# Altium schematic symbol library SCH-51943_B_Library.SchLib: 230 symbols (part 2 of 2)
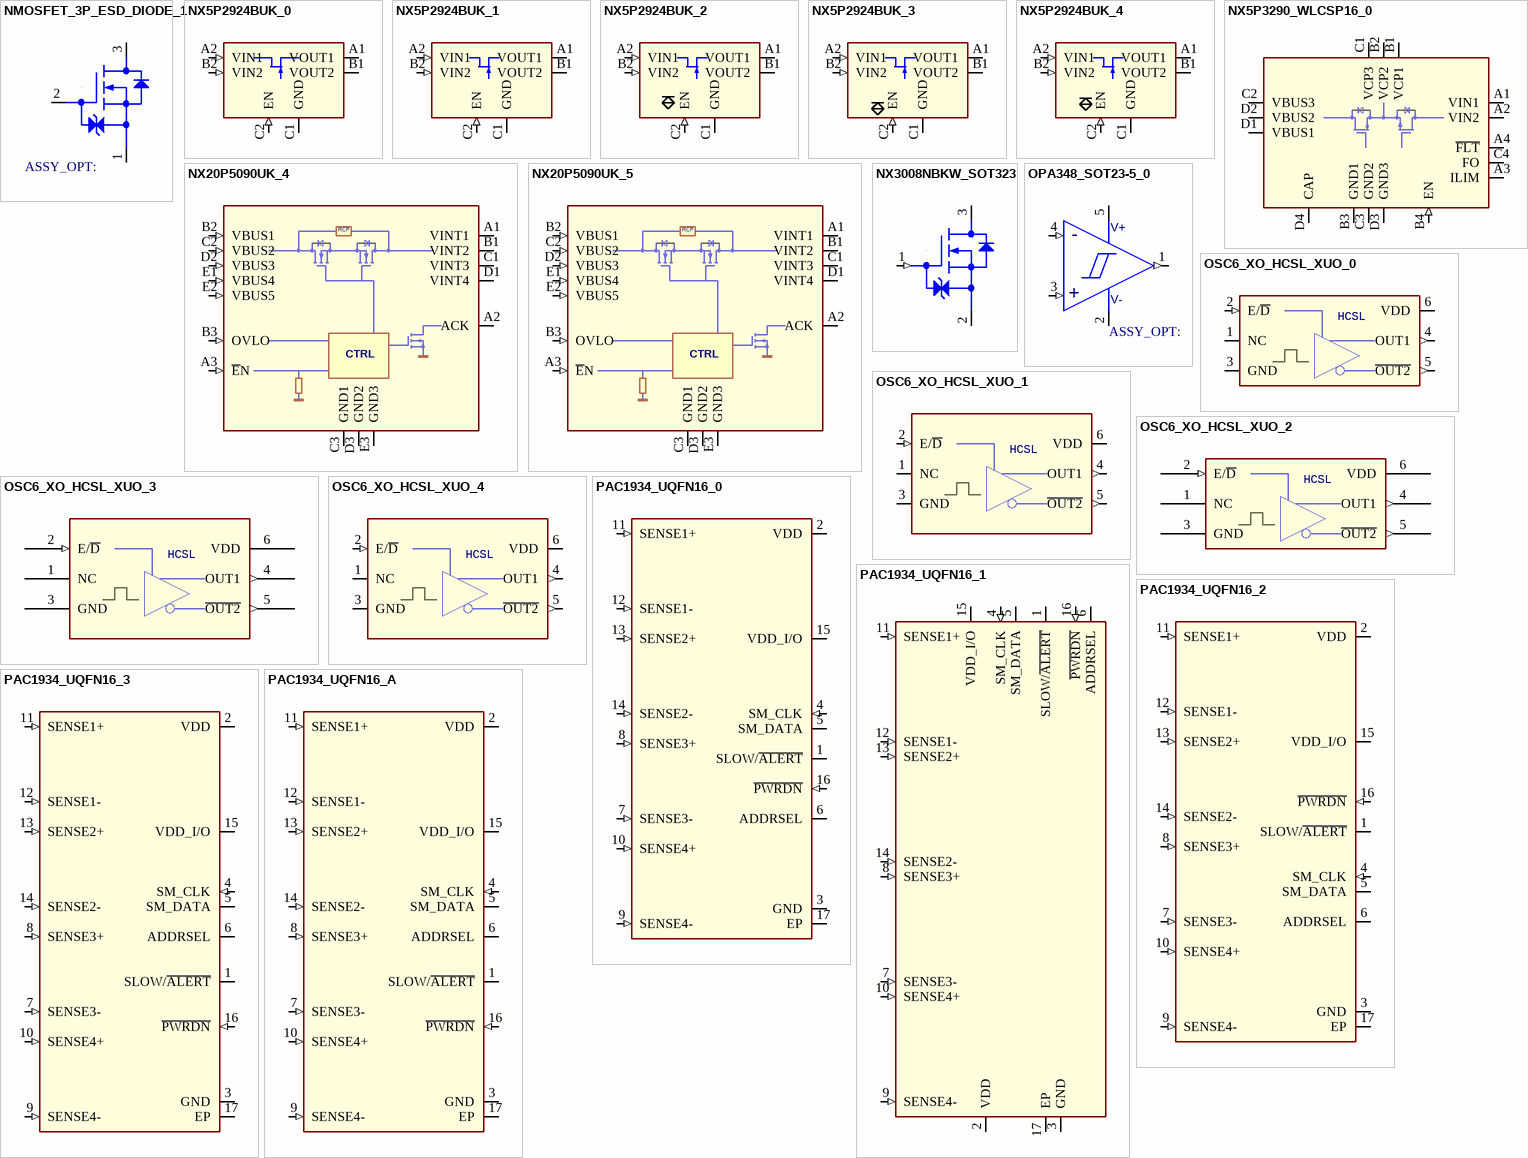
[diagram p28: symbols NMOSFET_3P_ESD_DIODE_1 to PAC1934_UQFN16_A]

## NX5P2924BUK_3
designator U?
CLASS: IC
footprint WLCSP6
pins: A1 VOUT1 (power), A2 VIN1 (in), B1 VOUT2 (power), B2 VIN2 (in), C1 GND (power), C2 EN (in)

## NX5P2924BUK_4
designator U?
CLASS: IC
footprint WLCSP6
pins: A1 VOUT1 (power), A2 VIN1 (in), B1 VOUT2 (power), B2 VIN2 (in), C1 GND (power), C2 EN (in)

## NX5P3290_WLCSP16_0
designator U?
CLASS: IC
pins: A1 VIN1 (power), A2 VIN2 (power), A3 ILIM, A4 ~{FLT} (oc), B1 VCP1, B2 VCP2, B3 GND1 (power), B4 EN (in), C1 VCP3, C2 VBUS3 (power), C3 GND2 (power), C4 FO, D1 VBUS1 (power), D2 VBUS2 (power), D3 GND3 (power), D4 CAP

## NX20P5090UK_4
designator U?
Manufacturer Part Number: NX20P5090UK; Manufacturer: NXP Semiconductors; CLASS: IC
footprint WLCSP15
pins: A1 VINT1 (power), A2 ACK (oc), A3 ~{E}N (in), B1 VINT2 (power), B2 VBUS1 (in), B3 OVLO (in), C1 VINT3 (power), C2 VBUS2 (in), C3 GND1 (power), D1 VINT4 (power), D2 VBUS3 (in), D3 GND2 (power), E1 VBUS4 (in), E2 VBUS5 (in), E3 GND3 (power)
text: RCP; CTRL

## NX20P5090UK_5
designator U?
Manufacturer: NXP Semiconductors; Manufacturer Part Number: NX20P5090UK; CLASS: IC
footprint WLCSP15
pins: A1 VINT1 (power), A2 ACK (oc), A3 ~{E}N (in), B1 VINT2 (power), B2 VBUS1 (in), B3 OVLO (in), C1 VINT3 (power), C2 VBUS2 (in), C3 GND1 (power), D1 VINT4 (power), D2 VBUS3 (in), D3 GND2 (power), E1 VBUS4 (in), E2 VBUS5 (in), E3 GND3 (power)
text: RCP; CTRL

## NX3008NBKW_SOT323
designator Q?
CLASS: IC
pins: 1 GATE (in), 2 SOURCE, 3 DRAIN

## OPA348_SOT23-5_0
designator U?
CLASS: IC
pins: 1 OUT (out), 2 V- (power), 3 +IN (in), 4 -IN (in), 5 V+ (power)
text: -; +

## OSC6_XO_HCSL_XUO_0
designator Y?
CLASS: IC
footprint JS6
pins: 1 NC, 2 E/~{D} (in), 3 GND (power), 4 OUT1 (out), 5 ~{OUT2} (out), 6 VDD (power)
text: HCSL

## OSC6_XO_HCSL_XUO_1
designator Y?
CLASS: IC
footprint JS6
pins: 1 NC, 2 E/~{D} (in), 3 GND (power), 4 OUT1 (out), 5 ~{OUT2} (out), 6 VDD (power)
text: HCSL

## OSC6_XO_HCSL_XUO_2
designator Y?
CLASS: IC
footprint JS6
pins: 1 NC, 2 E/~{D} (in), 3 GND (power), 4 OUT1 (out), 5 ~{OUT2} (out), 6 VDD (power)
text: HCSL

## OSC6_XO_HCSL_XUO_3
designator Y?
CLASS: IC
footprint JS6
pins: 1 NC, 2 E/~{D} (in), 3 GND (power), 4 OUT1 (out), 5 ~{OUT2} (out), 6 VDD (power)
text: HCSL

## OSC6_XO_HCSL_XUO_4
designator Y?
CLASS: IC
footprint JS6
pins: 1 NC, 2 E/~{D} (in), 3 GND (power), 4 OUT1 (out), 5 ~{OUT2} (out), 6 VDD (power)
text: HCSL

## PAC1934_UQFN16_0
designator U?
CLASS: IC
pins: 1 SLOW/~{ALERT} (io), 2 VDD (power), 3 GND (power), 4 SM_CLK (in), 5 SM_DATA (io), 6 ADDRSEL (io), 7 SENSE3- (in), 8 SENSE3+ (in), 9 SENSE4- (in), 10 SENSE4+ (in), 11 SENSE1+ (in), 12 SENSE1- (in), 13 SENSE2+ (in), 14 SENSE2- (in), 15 VDD_I/O (power), 16 ~{PWRDN} (in), 17 EP (power)

## PAC1934_UQFN16_1
designator U?
CLASS: IC
pins: 1 SLOW/~{ALERT} (io), 2 VDD (power), 3 GND (power), 4 SM_CLK (in), 5 SM_DATA (io), 6 ADDRSEL (io), 7 SENSE3- (in), 8 SENSE3+ (in), 9 SENSE4- (in), 10 SENSE4+ (in), 11 SENSE1+ (in), 12 SENSE1- (in), 13 SENSE2+ (in), 14 SENSE2- (in), 15 VDD_I/O (power), 16 ~{PWRDN} (in), 17 EP (power)

## PAC1934_UQFN16_2
designator U?
CLASS: IC
pins: 1 SLOW/~{ALERT} (io), 2 VDD (power), 3 GND (power), 4 SM_CLK (in), 5 SM_DATA (io), 6 ADDRSEL (io), 7 SENSE3- (in), 8 SENSE3+ (in), 9 SENSE4- (in), 10 SENSE4+ (in), 11 SENSE1+ (in), 12 SENSE1- (in), 13 SENSE2+ (in), 14 SENSE2- (in), 15 VDD_I/O (power), 16 ~{PWRDN} (in), 17 EP (power)

## PAC1934_UQFN16_3
designator U?
CLASS: IC
pins: 1 SLOW/~{ALERT} (io), 2 VDD (power), 3 GND (power), 4 SM_CLK (in), 5 SM_DATA (io), 6 ADDRSEL (io), 7 SENSE3- (in), 8 SENSE3+ (in), 9 SENSE4- (in), 10 SENSE4+ (in), 11 SENSE1+ (in), 12 SENSE1- (in), 13 SENSE2+ (in), 14 SENSE2- (in), 15 VDD_I/O (power), 16 ~{PWRDN} (in), 17 EP (power)

## PAC1934_UQFN16_A
designator U?
CLASS: IC
pins: 1 SLOW/~{ALERT} (io), 2 VDD (power), 3 GND (power), 4 SM_CLK (in), 5 SM_DATA (io), 6 ADDRSEL (io), 7 SENSE3- (in), 8 SENSE3+ (in), 9 SENSE4- (in), 10 SENSE4+ (in), 11 SENSE1+ (in), 12 SENSE1- (in), 13 SENSE2+ (in), 14 SENSE2- (in), 15 VDD_I/O (power), 16 ~{PWRDN} (in), 17 EP (power)

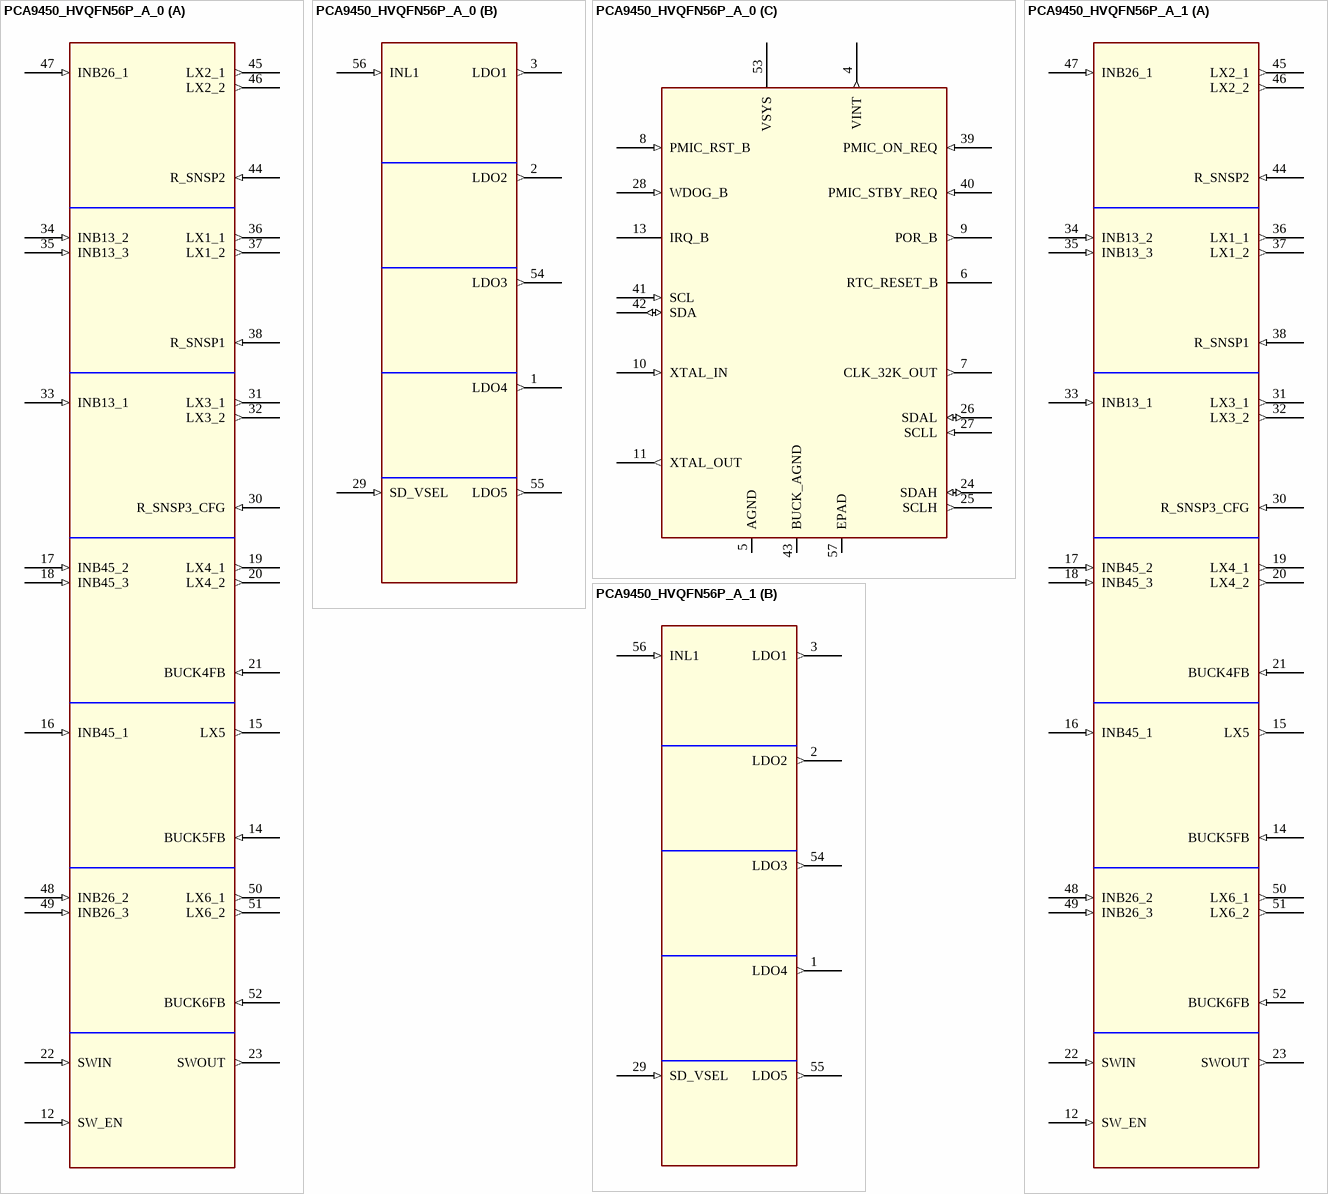
[diagram p12: symbols PCA9450_HVQFN56P_A_0 to PCA9450_HVQFN56P_A_1]

## PCA9450_HVQFN56P_A_0
designator U?
SWAP_INFO: (S1+S2+S3); SPLIT_INST: TRUE; CLASS: IC
part A pins: 12 SW_EN (in), 14 BUCK5FB (in), 15 LX5 (out), 16 INB45_1 (in), 17 INB45_2 (in), 18 INB45_3 (in), 19 LX4_1 (out), 20 LX4_2 (out), 21 BUCK4FB (in), 22 SWIN (in), 23 SWOUT (out), 30 R_SNSP3_CFG (in), 31 LX3_1 (out), 32 LX3_2 (out), 33 INB13_1 (in), 34 INB13_2 (in), 35 INB13_3 (in), 36 LX1_1 (out), 37 LX1_2 (out), 38 R_SNSP1 (in), 44 R_SNSP2 (in), 45 LX2_1 (out), 46 LX2_2 (out), 47 INB26_1 (in), 48 INB26_2 (in), 49 INB26_3 (in), 50 LX6_1 (out), 51 LX6_2 (out), 52 BUCK6FB (in)
part B pins: 1 LDO4 (out), 2 LDO2 (out), 3 LDO1 (out), 29 SD_VSEL (in), 54 LDO3 (out), 55 LDO5 (out), 56 INL1 (in)
part C pins: 4 VINT (out), 5 AGND (power), 6 RTC_RESET_B (oc), 7 CLK_32K_OUT (out), 8 PMIC_RST_B (in), 9 POR_B (out), 10 XTAL_IN (in), 11 XTAL_OUT (out), 13 IRQ_B (oc), 24 SDAH (io), 25 SCLH (out), 26 SDAL (io), 27 SCLL (in), 28 WDOG_B (in), 39 PMIC_ON_REQ (in), 40 PMIC_STBY_REQ (in), 41 SCL (in), 42 SDA (io), 43 BUCK_AGND (power), 53 VSYS (power), 57 EPAD (power)

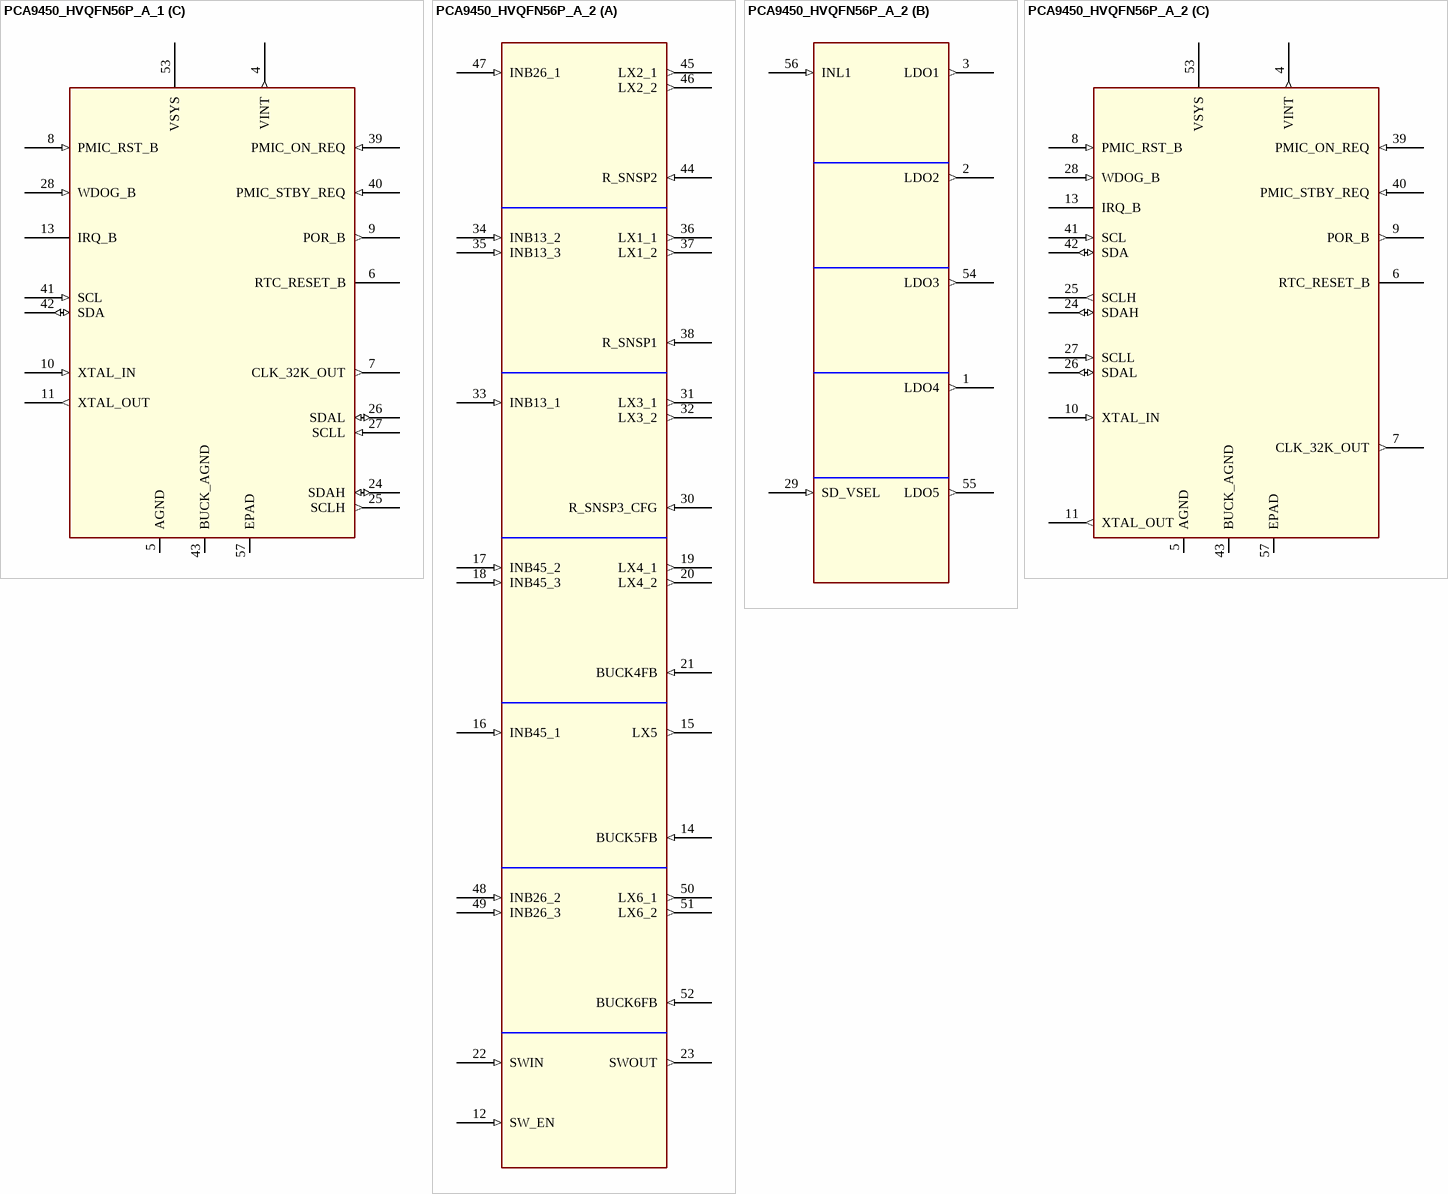
[diagram p13: symbols PCA9450_HVQFN56P_A_1 to PCA9450_HVQFN56P_A_2]

## PCA9450_HVQFN56P_A_1
designator U?
SWAP_INFO: (S1+S2+S3); SPLIT_INST: TRUE; CLASS: IC
part A pins: 12 SW_EN (in), 14 BUCK5FB (in), 15 LX5 (out), 16 INB45_1 (in), 17 INB45_2 (in), 18 INB45_3 (in), 19 LX4_1 (out), 20 LX4_2 (out), 21 BUCK4FB (in), 22 SWIN (in), 23 SWOUT (out), 30 R_SNSP3_CFG (in), 31 LX3_1 (out), 32 LX3_2 (out), 33 INB13_1 (in), 34 INB13_2 (in), 35 INB13_3 (in), 36 LX1_1 (out), 37 LX1_2 (out), 38 R_SNSP1 (in), 44 R_SNSP2 (in), 45 LX2_1 (out), 46 LX2_2 (out), 47 INB26_1 (in), 48 INB26_2 (in), 49 INB26_3 (in), 50 LX6_1 (out), 51 LX6_2 (out), 52 BUCK6FB (in)
part B pins: 1 LDO4 (out), 2 LDO2 (out), 3 LDO1 (out), 29 SD_VSEL (in), 54 LDO3 (out), 55 LDO5 (out), 56 INL1 (in)
part C pins: 4 VINT (out), 5 AGND (power), 6 RTC_RESET_B (oc), 7 CLK_32K_OUT (out), 8 PMIC_RST_B (in), 9 POR_B (out), 10 XTAL_IN (in), 11 XTAL_OUT (out), 13 IRQ_B (oc), 24 SDAH (io), 25 SCLH (out), 26 SDAL (io), 27 SCLL (in), 28 WDOG_B (in), 39 PMIC_ON_REQ (in), 40 PMIC_STBY_REQ (in), 41 SCL (in), 42 SDA (io), 43 BUCK_AGND (power), 53 VSYS (power), 57 EPAD (power)

## PCA9450_HVQFN56P_A_2
designator U?
SWAP_INFO: (S1+S2+S3); SPLIT_INST: TRUE; CLASS: IC
part A pins: 12 SW_EN (in), 14 BUCK5FB (in), 15 LX5 (out), 16 INB45_1 (in), 17 INB45_2 (in), 18 INB45_3 (in), 19 LX4_1 (out), 20 LX4_2 (out), 21 BUCK4FB (in), 22 SWIN (in), 23 SWOUT (out), 30 R_SNSP3_CFG (in), 31 LX3_1 (out), 32 LX3_2 (out), 33 INB13_1 (in), 34 INB13_2 (in), 35 INB13_3 (in), 36 LX1_1 (out), 37 LX1_2 (out), 38 R_SNSP1 (in), 44 R_SNSP2 (in), 45 LX2_1 (out), 46 LX2_2 (out), 47 INB26_1 (in), 48 INB26_2 (in), 49 INB26_3 (in), 50 LX6_1 (out), 51 LX6_2 (out), 52 BUCK6FB (in)
part B pins: 1 LDO4 (out), 2 LDO2 (out), 3 LDO1 (out), 29 SD_VSEL (in), 54 LDO3 (out), 55 LDO5 (out), 56 INL1 (in)
part C pins: 4 VINT (out), 5 AGND (power), 6 RTC_RESET_B (oc), 7 CLK_32K_OUT (out), 8 PMIC_RST_B (in), 9 POR_B (out), 10 XTAL_IN (in), 11 XTAL_OUT (out), 13 IRQ_B (oc), 24 SDAH (io), 25 SCLH (out), 26 SDAL (io), 27 SCLL (in), 28 WDOG_B (in), 39 PMIC_ON_REQ (in), 40 PMIC_STBY_REQ (in), 41 SCL (in), 42 SDA (io), 43 BUCK_AGND (power), 53 VSYS (power), 57 EPAD (power)

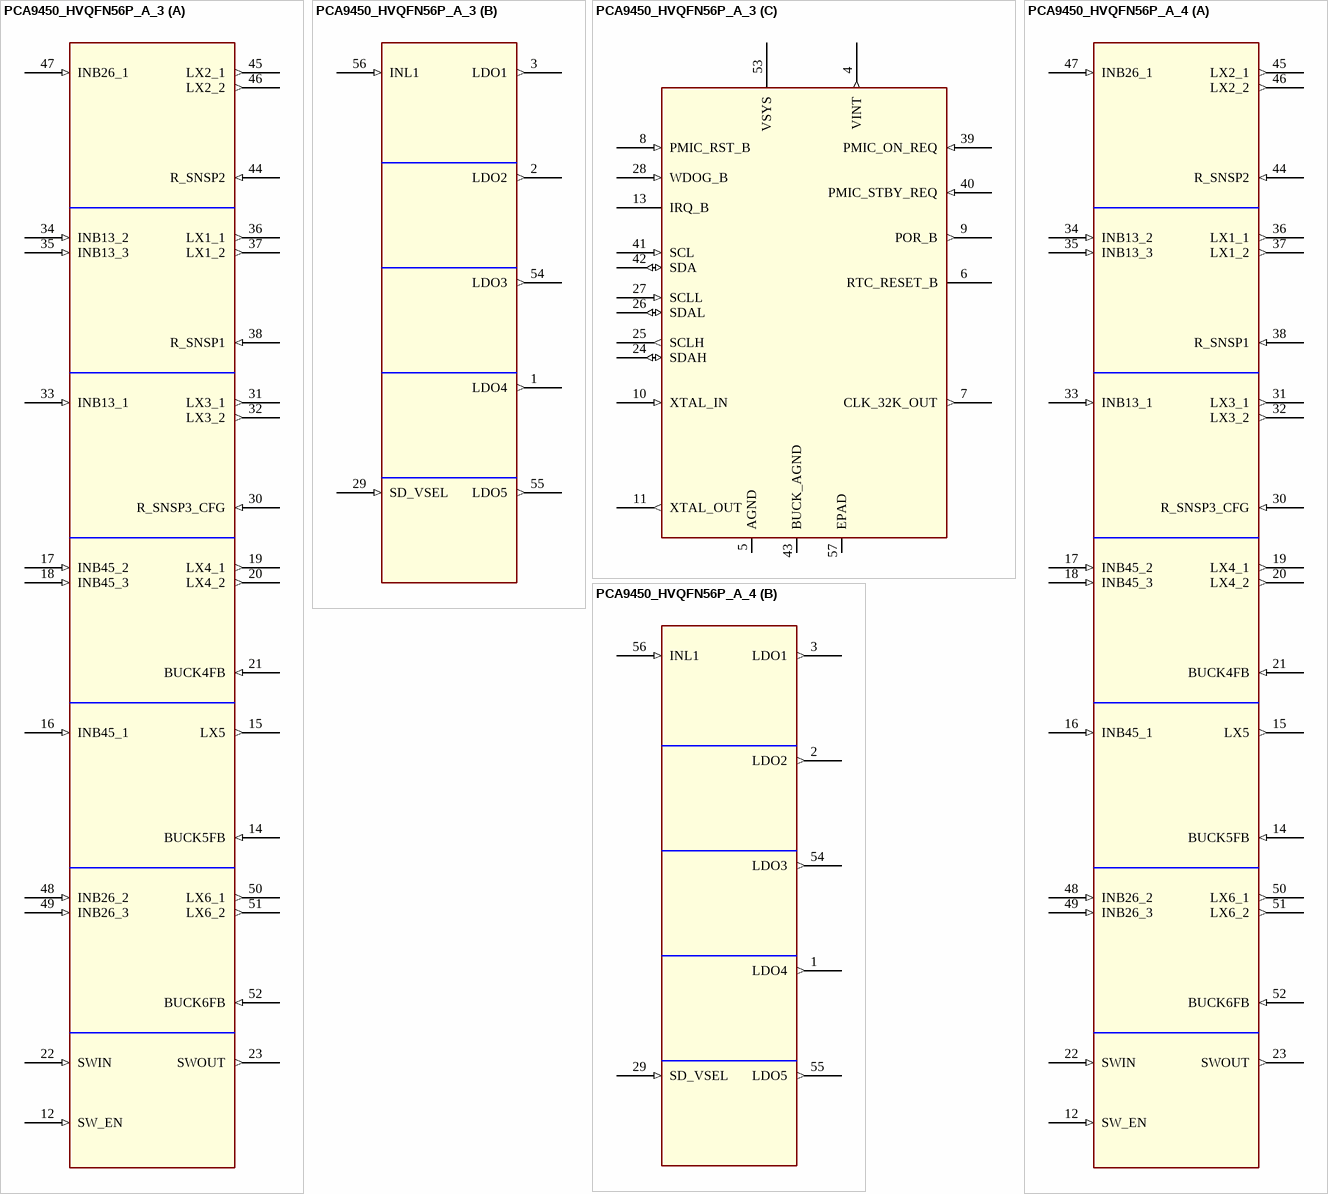
[diagram p14: symbols PCA9450_HVQFN56P_A_3 to PCA9450_HVQFN56P_A_4]

## PCA9450_HVQFN56P_A_3
designator U?
SWAP_INFO: (S1+S2+S3); SPLIT_INST: TRUE; CLASS: IC
part A pins: 12 SW_EN (in), 14 BUCK5FB (in), 15 LX5 (out), 16 INB45_1 (in), 17 INB45_2 (in), 18 INB45_3 (in), 19 LX4_1 (out), 20 LX4_2 (out), 21 BUCK4FB (in), 22 SWIN (in), 23 SWOUT (out), 30 R_SNSP3_CFG (in), 31 LX3_1 (out), 32 LX3_2 (out), 33 INB13_1 (in), 34 INB13_2 (in), 35 INB13_3 (in), 36 LX1_1 (out), 37 LX1_2 (out), 38 R_SNSP1 (in), 44 R_SNSP2 (in), 45 LX2_1 (out), 46 LX2_2 (out), 47 INB26_1 (in), 48 INB26_2 (in), 49 INB26_3 (in), 50 LX6_1 (out), 51 LX6_2 (out), 52 BUCK6FB (in)
part B pins: 1 LDO4 (out), 2 LDO2 (out), 3 LDO1 (out), 29 SD_VSEL (in), 54 LDO3 (out), 55 LDO5 (out), 56 INL1 (in)
part C pins: 4 VINT (out), 5 AGND (power), 6 RTC_RESET_B (oc), 7 CLK_32K_OUT (out), 8 PMIC_RST_B (in), 9 POR_B (out), 10 XTAL_IN (in), 11 XTAL_OUT (out), 13 IRQ_B (oc), 24 SDAH (io), 25 SCLH (out), 26 SDAL (io), 27 SCLL (in), 28 WDOG_B (in), 39 PMIC_ON_REQ (in), 40 PMIC_STBY_REQ (in), 41 SCL (in), 42 SDA (io), 43 BUCK_AGND (power), 53 VSYS (power), 57 EPAD (power)

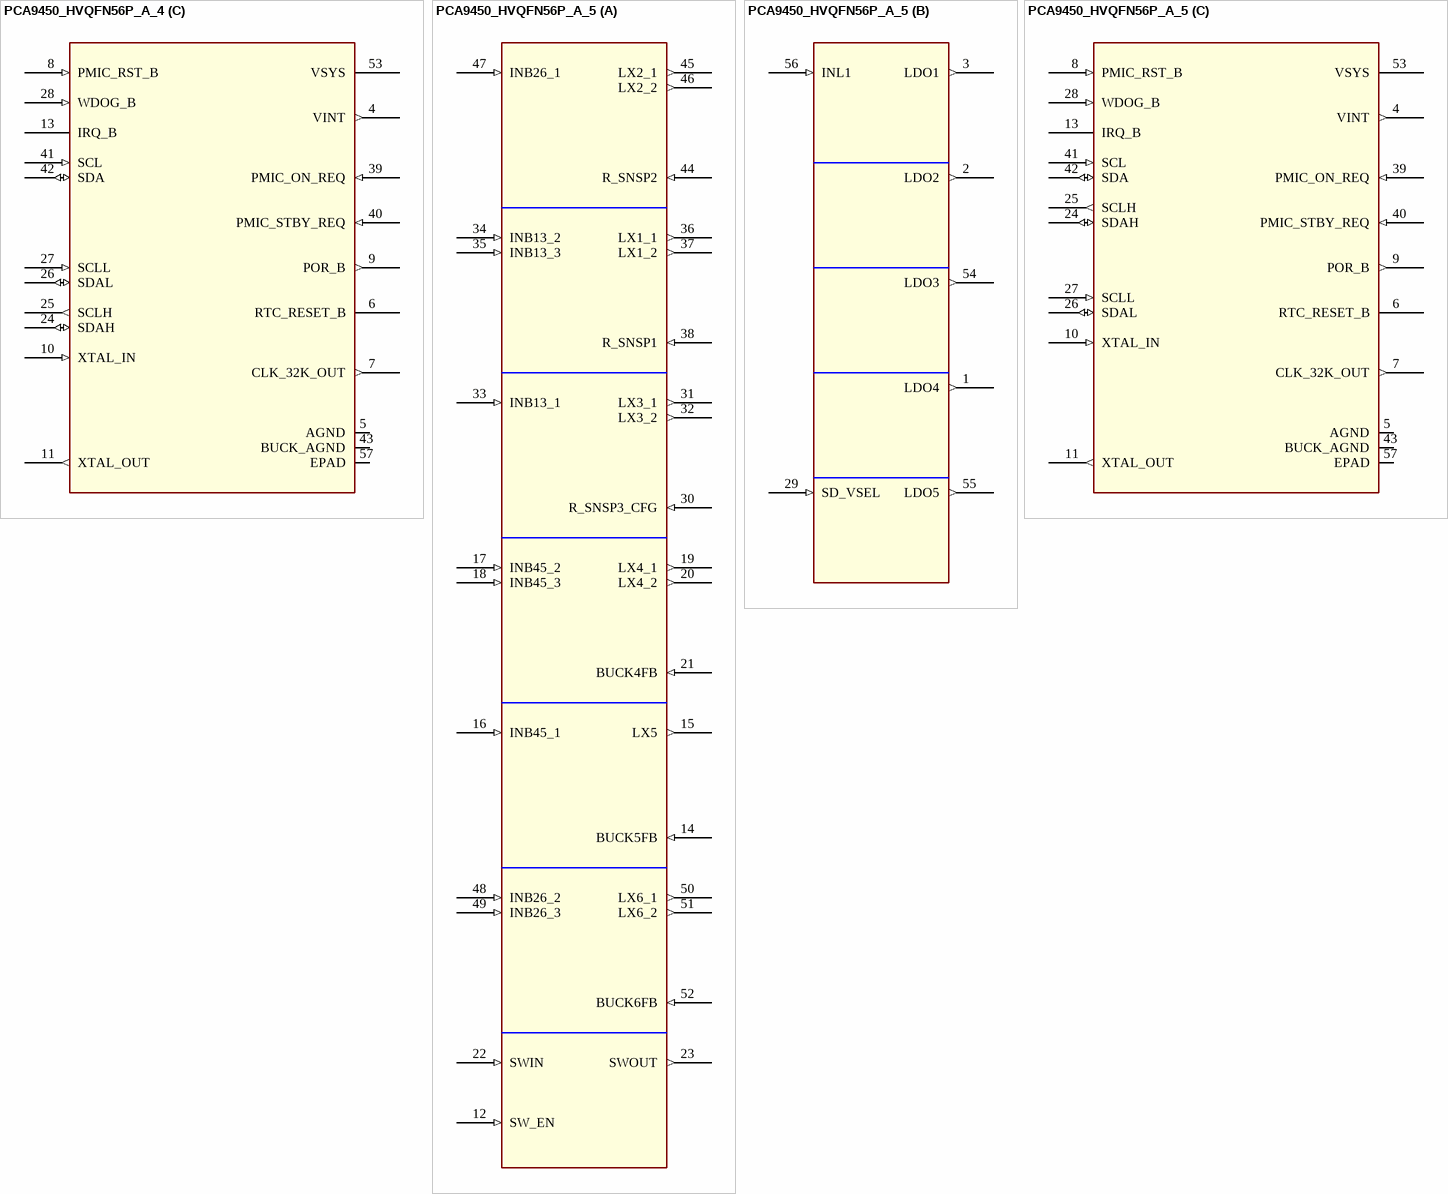
[diagram p15: symbols PCA9450_HVQFN56P_A_4 to PCA9450_HVQFN56P_A_5]

## PCA9450_HVQFN56P_A_4
designator U?
SWAP_INFO: (S1+S2+S3); SPLIT_INST: TRUE; CLASS: IC
part A pins: 12 SW_EN (in), 14 BUCK5FB (in), 15 LX5 (out), 16 INB45_1 (in), 17 INB45_2 (in), 18 INB45_3 (in), 19 LX4_1 (out), 20 LX4_2 (out), 21 BUCK4FB (in), 22 SWIN (in), 23 SWOUT (out), 30 R_SNSP3_CFG (in), 31 LX3_1 (out), 32 LX3_2 (out), 33 INB13_1 (in), 34 INB13_2 (in), 35 INB13_3 (in), 36 LX1_1 (out), 37 LX1_2 (out), 38 R_SNSP1 (in), 44 R_SNSP2 (in), 45 LX2_1 (out), 46 LX2_2 (out), 47 INB26_1 (in), 48 INB26_2 (in), 49 INB26_3 (in), 50 LX6_1 (out), 51 LX6_2 (out), 52 BUCK6FB (in)
part B pins: 1 LDO4 (out), 2 LDO2 (out), 3 LDO1 (out), 29 SD_VSEL (in), 54 LDO3 (out), 55 LDO5 (out), 56 INL1 (in)
part C pins: 4 VINT (out), 5 AGND (power), 6 RTC_RESET_B (oc), 7 CLK_32K_OUT (out), 8 PMIC_RST_B (in), 9 POR_B (out), 10 XTAL_IN (in), 11 XTAL_OUT (out), 13 IRQ_B (oc), 24 SDAH (io), 25 SCLH (out), 26 SDAL (io), 27 SCLL (in), 28 WDOG_B (in), 39 PMIC_ON_REQ (in), 40 PMIC_STBY_REQ (in), 41 SCL (in), 42 SDA (io), 43 BUCK_AGND (power), 53 VSYS (power), 57 EPAD (power)

## PCA9450_HVQFN56P_A_5
designator U?
SWAP_INFO: (S1+S2+S3); SPLIT_INST: TRUE; CLASS: IC
part A pins: 12 SW_EN (in), 14 BUCK5FB (in), 15 LX5 (out), 16 INB45_1 (in), 17 INB45_2 (in), 18 INB45_3 (in), 19 LX4_1 (out), 20 LX4_2 (out), 21 BUCK4FB (in), 22 SWIN (in), 23 SWOUT (out), 30 R_SNSP3_CFG (in), 31 LX3_1 (out), 32 LX3_2 (out), 33 INB13_1 (in), 34 INB13_2 (in), 35 INB13_3 (in), 36 LX1_1 (out), 37 LX1_2 (out), 38 R_SNSP1 (in), 44 R_SNSP2 (in), 45 LX2_1 (out), 46 LX2_2 (out), 47 INB26_1 (in), 48 INB26_2 (in), 49 INB26_3 (in), 50 LX6_1 (out), 51 LX6_2 (out), 52 BUCK6FB (in)
part B pins: 1 LDO4 (out), 2 LDO2 (out), 3 LDO1 (out), 29 SD_VSEL (in), 54 LDO3 (out), 55 LDO5 (out), 56 INL1 (in)
part C pins: 4 VINT (out), 5 AGND (power), 6 RTC_RESET_B (oc), 7 CLK_32K_OUT (out), 8 PMIC_RST_B (in), 9 POR_B (out), 10 XTAL_IN (in), 11 XTAL_OUT (out), 13 IRQ_B (oc), 24 SDAH (io), 25 SCLH (out), 26 SDAL (io), 27 SCLL (in), 28 WDOG_B (in), 39 PMIC_ON_REQ (in), 40 PMIC_STBY_REQ (in), 41 SCL (in), 42 SDA (io), 43 BUCK_AGND (power), 53 VSYS (power), 57 EPAD (power)

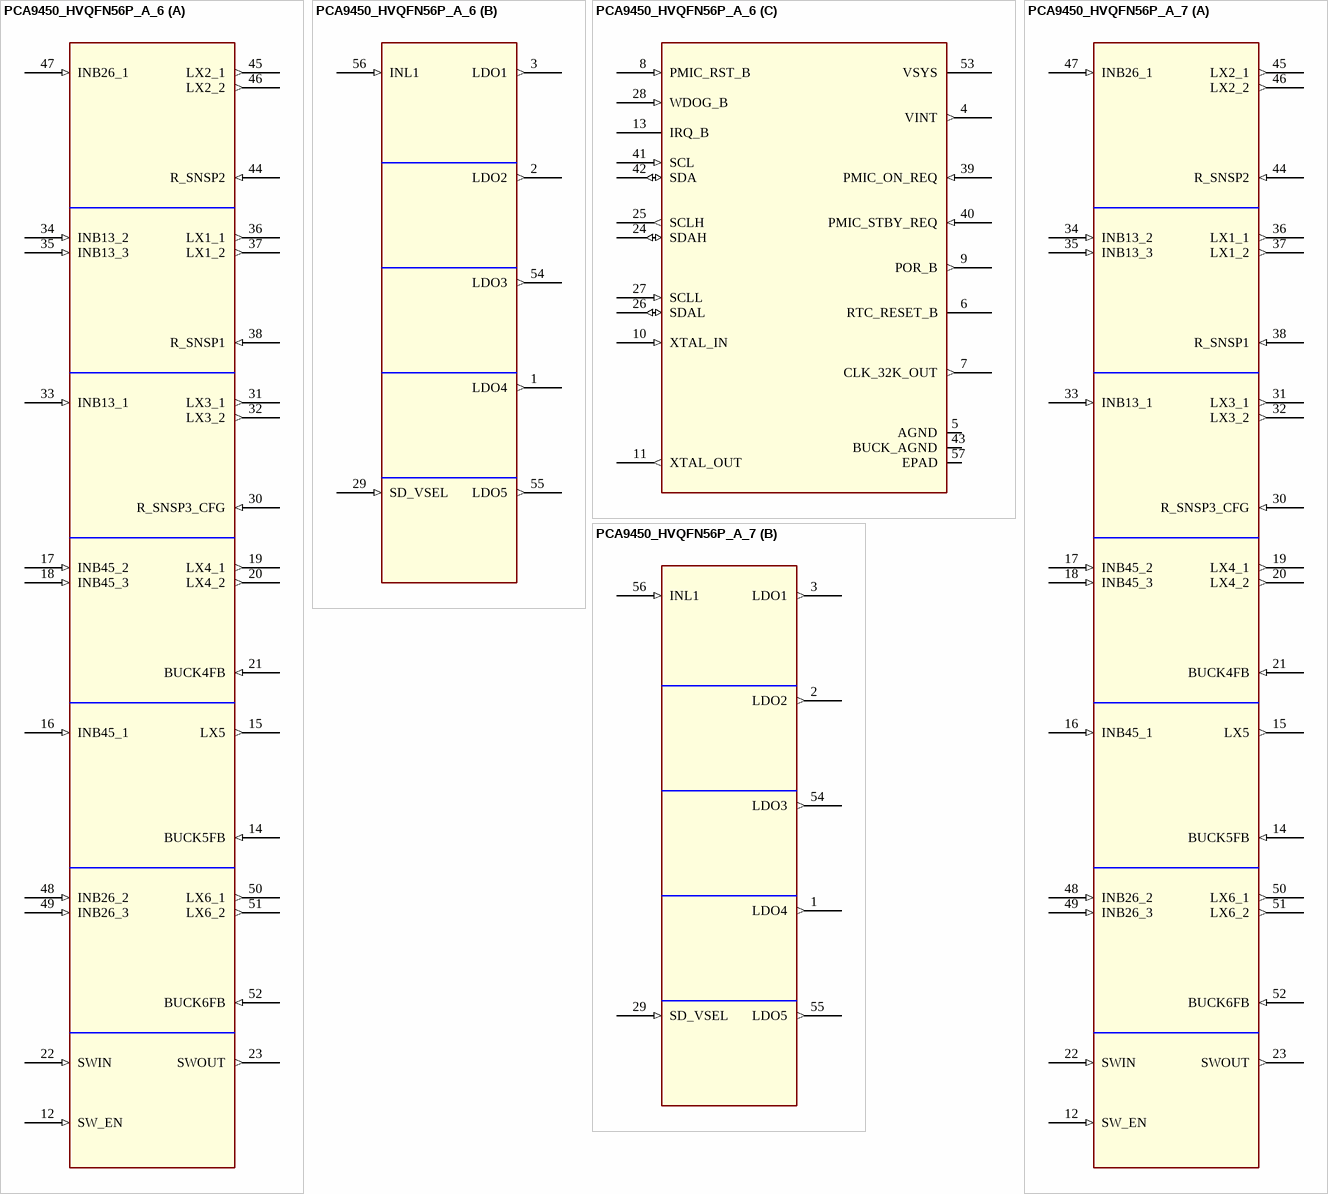
[diagram p16: symbols PCA9450_HVQFN56P_A_6 to PCA9450_HVQFN56P_A_7]

## PCA9450_HVQFN56P_A_6
designator U?
SWAP_INFO: (S1+S2+S3); SPLIT_INST: TRUE; CLASS: IC
part A pins: 12 SW_EN (in), 14 BUCK5FB (in), 15 LX5 (out), 16 INB45_1 (in), 17 INB45_2 (in), 18 INB45_3 (in), 19 LX4_1 (out), 20 LX4_2 (out), 21 BUCK4FB (in), 22 SWIN (in), 23 SWOUT (out), 30 R_SNSP3_CFG (in), 31 LX3_1 (out), 32 LX3_2 (out), 33 INB13_1 (in), 34 INB13_2 (in), 35 INB13_3 (in), 36 LX1_1 (out), 37 LX1_2 (out), 38 R_SNSP1 (in), 44 R_SNSP2 (in), 45 LX2_1 (out), 46 LX2_2 (out), 47 INB26_1 (in), 48 INB26_2 (in), 49 INB26_3 (in), 50 LX6_1 (out), 51 LX6_2 (out), 52 BUCK6FB (in)
part B pins: 1 LDO4 (out), 2 LDO2 (out), 3 LDO1 (out), 29 SD_VSEL (in), 54 LDO3 (out), 55 LDO5 (out), 56 INL1 (in)
part C pins: 4 VINT (out), 5 AGND (power), 6 RTC_RESET_B (oc), 7 CLK_32K_OUT (out), 8 PMIC_RST_B (in), 9 POR_B (out), 10 XTAL_IN (in), 11 XTAL_OUT (out), 13 IRQ_B (oc), 24 SDAH (io), 25 SCLH (out), 26 SDAL (io), 27 SCLL (in), 28 WDOG_B (in), 39 PMIC_ON_REQ (in), 40 PMIC_STBY_REQ (in), 41 SCL (in), 42 SDA (io), 43 BUCK_AGND (power), 53 VSYS (power), 57 EPAD (power)

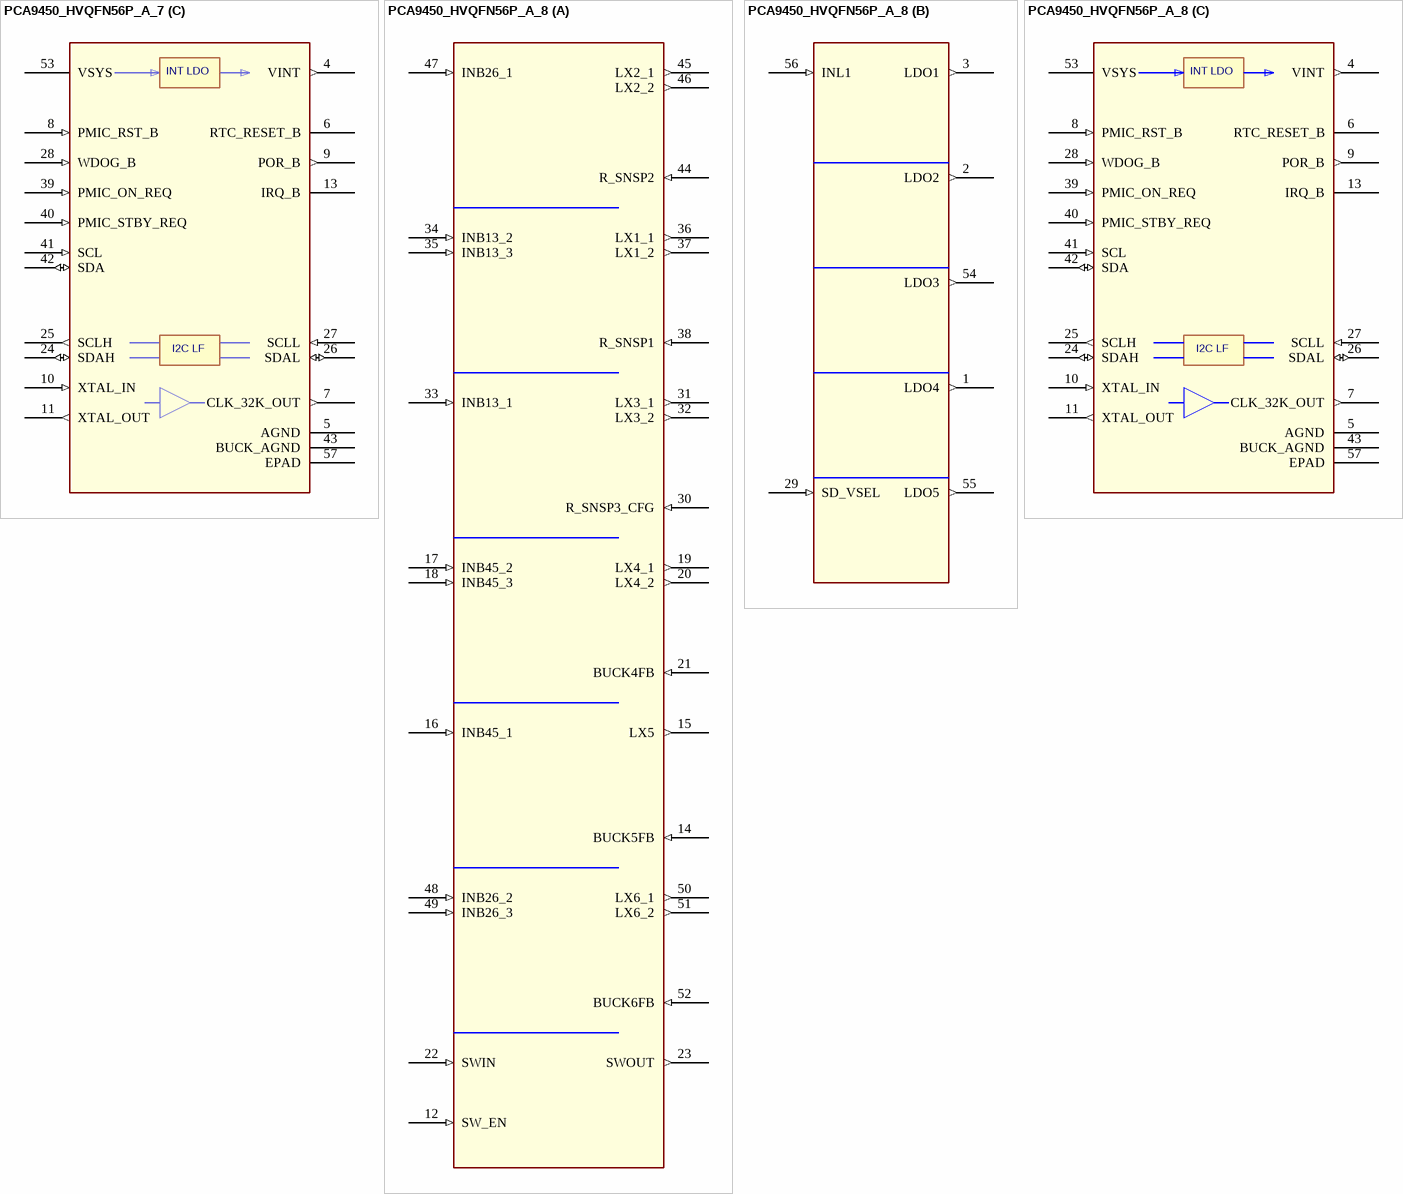
[diagram p17: symbols PCA9450_HVQFN56P_A_7 to PCA9450_HVQFN56P_A_8]

## PCA9450_HVQFN56P_A_7
designator U?
CLASS: IC; SPLIT_INST: TRUE; SWAP_INFO: (S1+S2+S3)
part A pins: 12 SW_EN (in), 14 BUCK5FB (in), 15 LX5 (out), 16 INB45_1 (in), 17 INB45_2 (in), 18 INB45_3 (in), 19 LX4_1 (out), 20 LX4_2 (out), 21 BUCK4FB (in), 22 SWIN (in), 23 SWOUT (out), 30 R_SNSP3_CFG (in), 31 LX3_1 (out), 32 LX3_2 (out), 33 INB13_1 (in), 34 INB13_2 (in), 35 INB13_3 (in), 36 LX1_1 (out), 37 LX1_2 (out), 38 R_SNSP1 (in), 44 R_SNSP2 (in), 45 LX2_1 (out), 46 LX2_2 (out), 47 INB26_1 (in), 48 INB26_2 (in), 49 INB26_3 (in), 50 LX6_1 (out), 51 LX6_2 (out), 52 BUCK6FB (in)
part B pins: 1 LDO4 (out), 2 LDO2 (out), 3 LDO1 (out), 29 SD_VSEL (in), 54 LDO3 (out), 55 LDO5 (out), 56 INL1 (in)
part C pins: 4 VINT (out), 5 AGND (power), 6 RTC_RESET_B (oc), 7 CLK_32K_OUT (out), 8 PMIC_RST_B (in), 9 POR_B (out), 10 XTAL_IN (in), 11 XTAL_OUT (out), 13 IRQ_B (oc), 24 SDAH (io), 25 SCLH (out), 26 SDAL (io), 27 SCLL (in), 28 WDOG_B (in), 39 PMIC_ON_REQ (in), 40 PMIC_STBY_REQ (in), 41 SCL (in), 42 SDA (io), 43 BUCK_AGND (power), 53 VSYS (power), 57 EPAD (power)
part C text: INT LDO; I2C LF

## PCA9450_HVQFN56P_A_8
designator U?
CLASS: IC; SPLIT_INST: TRUE; SWAP_INFO: (S1+S2+S3)
part A pins: 12 SW_EN (in), 14 BUCK5FB (in), 15 LX5 (out), 16 INB45_1 (in), 17 INB45_2 (in), 18 INB45_3 (in), 19 LX4_1 (out), 20 LX4_2 (out), 21 BUCK4FB (in), 22 SWIN (in), 23 SWOUT (out), 30 R_SNSP3_CFG (in), 31 LX3_1 (out), 32 LX3_2 (out), 33 INB13_1 (in), 34 INB13_2 (in), 35 INB13_3 (in), 36 LX1_1 (out), 37 LX1_2 (out), 38 R_SNSP1 (in), 44 R_SNSP2 (in), 45 LX2_1 (out), 46 LX2_2 (out), 47 INB26_1 (in), 48 INB26_2 (in), 49 INB26_3 (in), 50 LX6_1 (out), 51 LX6_2 (out), 52 BUCK6FB (in)
part B pins: 1 LDO4 (out), 2 LDO2 (out), 3 LDO1 (out), 29 SD_VSEL (in), 54 LDO3 (out), 55 LDO5 (out), 56 INL1 (in)
part C pins: 4 VINT (out), 5 AGND (power), 6 RTC_RESET_B (oc), 7 CLK_32K_OUT (out), 8 PMIC_RST_B (in), 9 POR_B (out), 10 XTAL_IN (in), 11 XTAL_OUT (out), 13 IRQ_B (oc), 24 SDAH (io), 25 SCLH (out), 26 SDAL (io), 27 SCLL (in), 28 WDOG_B (in), 39 PMIC_ON_REQ (in), 40 PMIC_STBY_REQ (in), 41 SCL (in), 42 SDA (io), 43 BUCK_AGND (power), 53 VSYS (power), 57 EPAD (power)
part C text: INT LDO; I2C LF

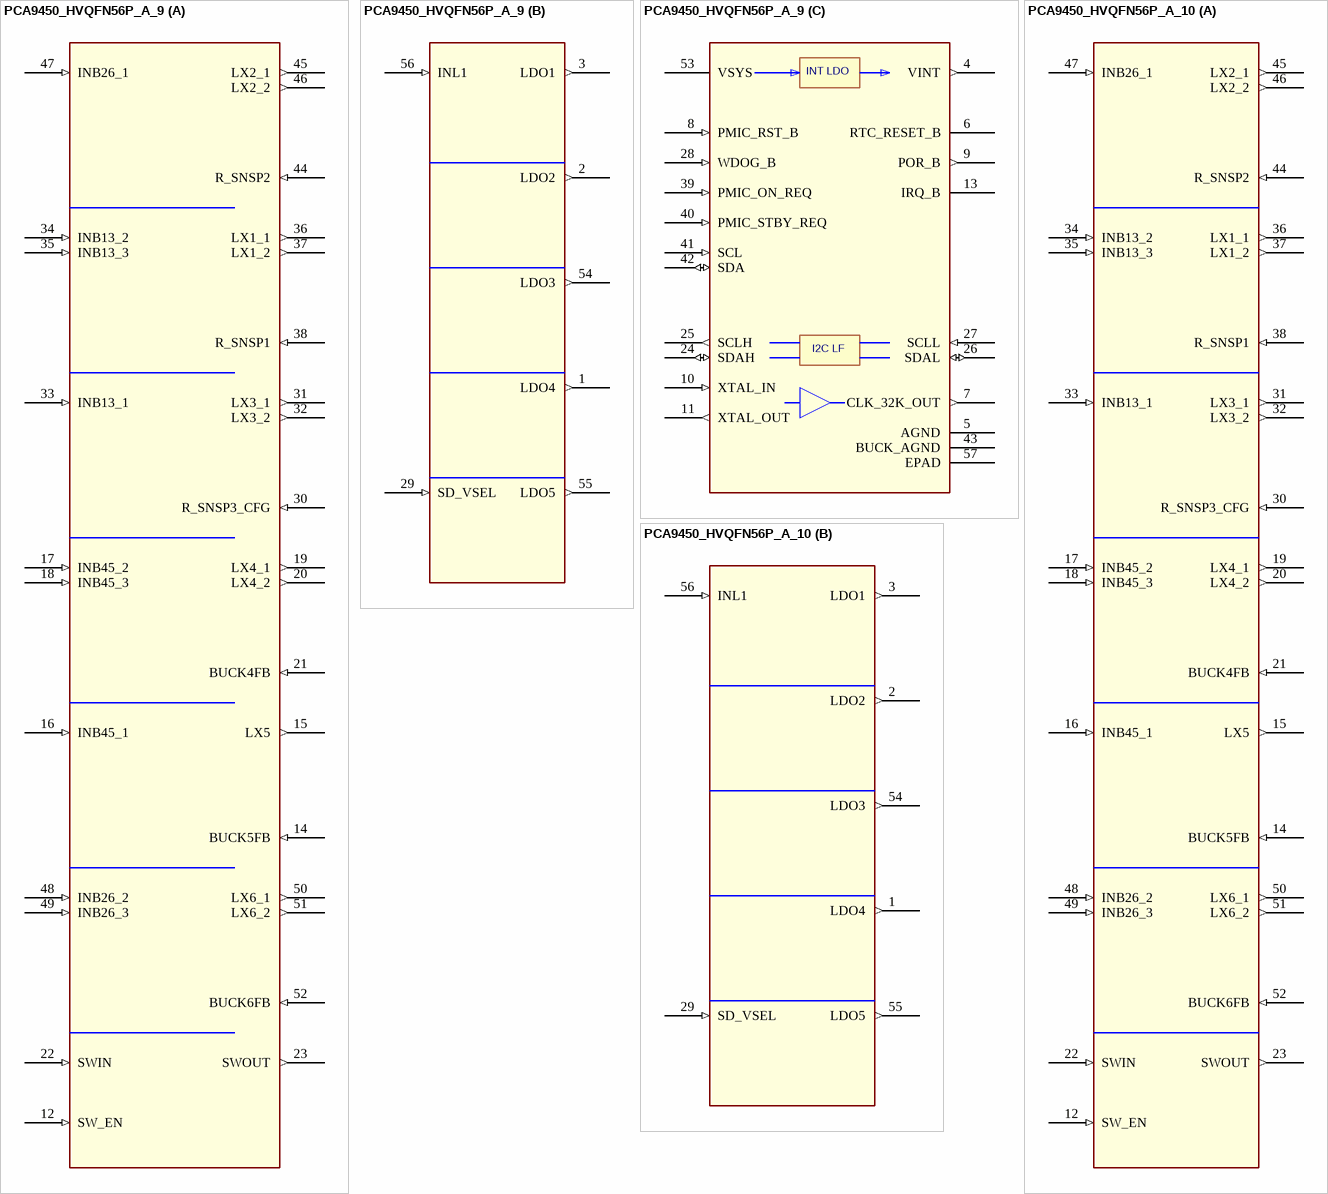
[diagram p18: symbols PCA9450_HVQFN56P_A_9 to PCA9450_HVQFN56P_A_10]

## PCA9450_HVQFN56P_A_9
designator U?
CLASS: IC; SPLIT_INST: TRUE; SWAP_INFO: (S1+S2+S3)
part A pins: 12 SW_EN (in), 14 BUCK5FB (in), 15 LX5 (out), 16 INB45_1 (in), 17 INB45_2 (in), 18 INB45_3 (in), 19 LX4_1 (out), 20 LX4_2 (out), 21 BUCK4FB (in), 22 SWIN (in), 23 SWOUT (out), 30 R_SNSP3_CFG (in), 31 LX3_1 (out), 32 LX3_2 (out), 33 INB13_1 (in), 34 INB13_2 (in), 35 INB13_3 (in), 36 LX1_1 (out), 37 LX1_2 (out), 38 R_SNSP1 (in), 44 R_SNSP2 (in), 45 LX2_1 (out), 46 LX2_2 (out), 47 INB26_1 (in), 48 INB26_2 (in), 49 INB26_3 (in), 50 LX6_1 (out), 51 LX6_2 (out), 52 BUCK6FB (in)
part B pins: 1 LDO4 (out), 2 LDO2 (out), 3 LDO1 (out), 29 SD_VSEL (in), 54 LDO3 (out), 55 LDO5 (out), 56 INL1 (in)
part C pins: 4 VINT (out), 5 AGND (power), 6 RTC_RESET_B (oc), 7 CLK_32K_OUT (out), 8 PMIC_RST_B (in), 9 POR_B (out), 10 XTAL_IN (in), 11 XTAL_OUT (out), 13 IRQ_B (oc), 24 SDAH (io), 25 SCLH (out), 26 SDAL (io), 27 SCLL (in), 28 WDOG_B (in), 39 PMIC_ON_REQ (in), 40 PMIC_STBY_REQ (in), 41 SCL (in), 42 SDA (io), 43 BUCK_AGND (power), 53 VSYS (power), 57 EPAD (power)
part C text: INT LDO; I2C LF

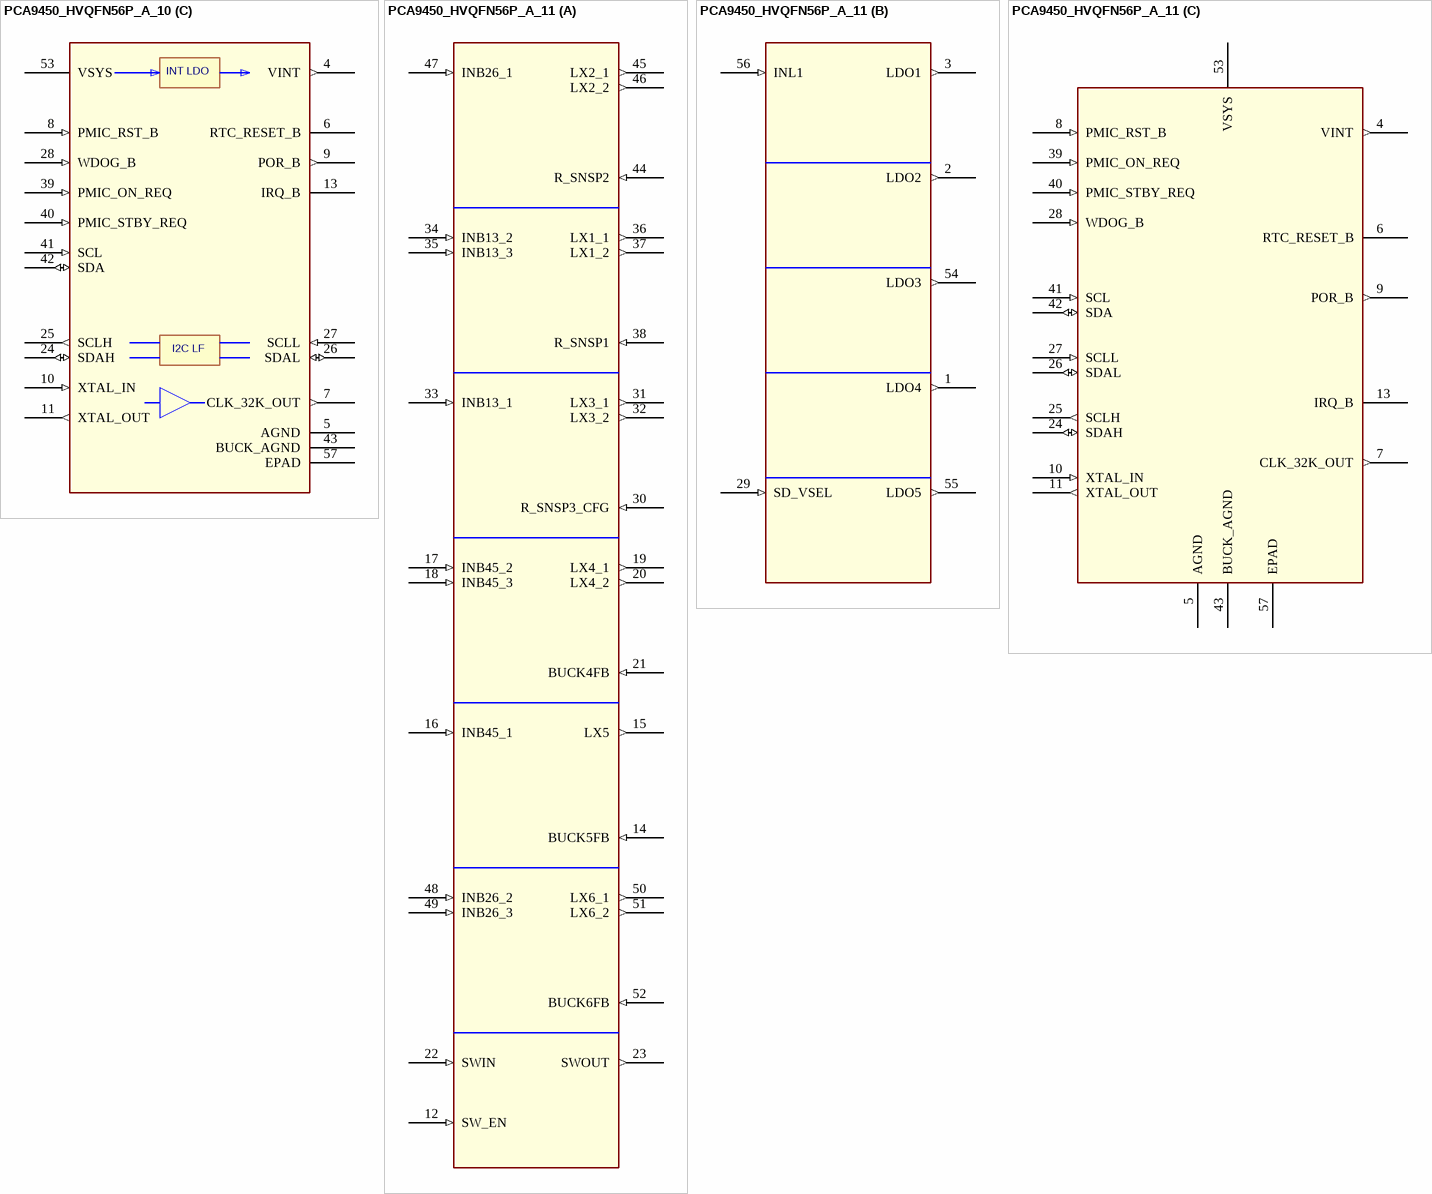
[diagram p19: symbols PCA9450_HVQFN56P_A_10 to PCA9450_HVQFN56P_A_11]

## PCA9450_HVQFN56P_A_10
designator U?
CLASS: IC; SPLIT_INST: TRUE; SWAP_INFO: (S1+S2+S3)
part A pins: 12 SW_EN (in), 14 BUCK5FB (in), 15 LX5 (out), 16 INB45_1 (in), 17 INB45_2 (in), 18 INB45_3 (in), 19 LX4_1 (out), 20 LX4_2 (out), 21 BUCK4FB (in), 22 SWIN (in), 23 SWOUT (out), 30 R_SNSP3_CFG (in), 31 LX3_1 (out), 32 LX3_2 (out), 33 INB13_1 (in), 34 INB13_2 (in), 35 INB13_3 (in), 36 LX1_1 (out), 37 LX1_2 (out), 38 R_SNSP1 (in), 44 R_SNSP2 (in), 45 LX2_1 (out), 46 LX2_2 (out), 47 INB26_1 (in), 48 INB26_2 (in), 49 INB26_3 (in), 50 LX6_1 (out), 51 LX6_2 (out), 52 BUCK6FB (in)
part B pins: 1 LDO4 (out), 2 LDO2 (out), 3 LDO1 (out), 29 SD_VSEL (in), 54 LDO3 (out), 55 LDO5 (out), 56 INL1 (in)
part C pins: 4 VINT (out), 5 AGND (power), 6 RTC_RESET_B (oc), 7 CLK_32K_OUT (out), 8 PMIC_RST_B (in), 9 POR_B (out), 10 XTAL_IN (in), 11 XTAL_OUT (out), 13 IRQ_B (oc), 24 SDAH (io), 25 SCLH (out), 26 SDAL (io), 27 SCLL (in), 28 WDOG_B (in), 39 PMIC_ON_REQ (in), 40 PMIC_STBY_REQ (in), 41 SCL (in), 42 SDA (io), 43 BUCK_AGND (power), 53 VSYS (power), 57 EPAD (power)
part C text: INT LDO; I2C LF

## PCA9450_HVQFN56P_A_11
designator U?
CLASS: IC; SPLIT_INST: TRUE; SWAP_INFO: (S1+S2+S3)
part A pins: 12 SW_EN (in), 14 BUCK5FB (in), 15 LX5 (out), 16 INB45_1 (in), 17 INB45_2 (in), 18 INB45_3 (in), 19 LX4_1 (out), 20 LX4_2 (out), 21 BUCK4FB (in), 22 SWIN (in), 23 SWOUT (out), 30 R_SNSP3_CFG (in), 31 LX3_1 (out), 32 LX3_2 (out), 33 INB13_1 (in), 34 INB13_2 (in), 35 INB13_3 (in), 36 LX1_1 (out), 37 LX1_2 (out), 38 R_SNSP1 (in), 44 R_SNSP2 (in), 45 LX2_1 (out), 46 LX2_2 (out), 47 INB26_1 (in), 48 INB26_2 (in), 49 INB26_3 (in), 50 LX6_1 (out), 51 LX6_2 (out), 52 BUCK6FB (in)
part B pins: 1 LDO4 (out), 2 LDO2 (out), 3 LDO1 (out), 29 SD_VSEL (in), 54 LDO3 (out), 55 LDO5 (out), 56 INL1 (in)
part C pins: 4 VINT (out), 5 AGND (power), 6 RTC_RESET_B (oc), 7 CLK_32K_OUT (out), 8 PMIC_RST_B (in), 9 POR_B (out), 10 XTAL_IN (in), 11 XTAL_OUT (out), 13 IRQ_B (oc), 24 SDAH (io), 25 SCLH (out), 26 SDAL (io), 27 SCLL (in), 28 WDOG_B (in), 39 PMIC_ON_REQ (in), 40 PMIC_STBY_REQ (in), 41 SCL (in), 42 SDA (io), 43 BUCK_AGND (power), 53 VSYS (power), 57 EPAD (power)

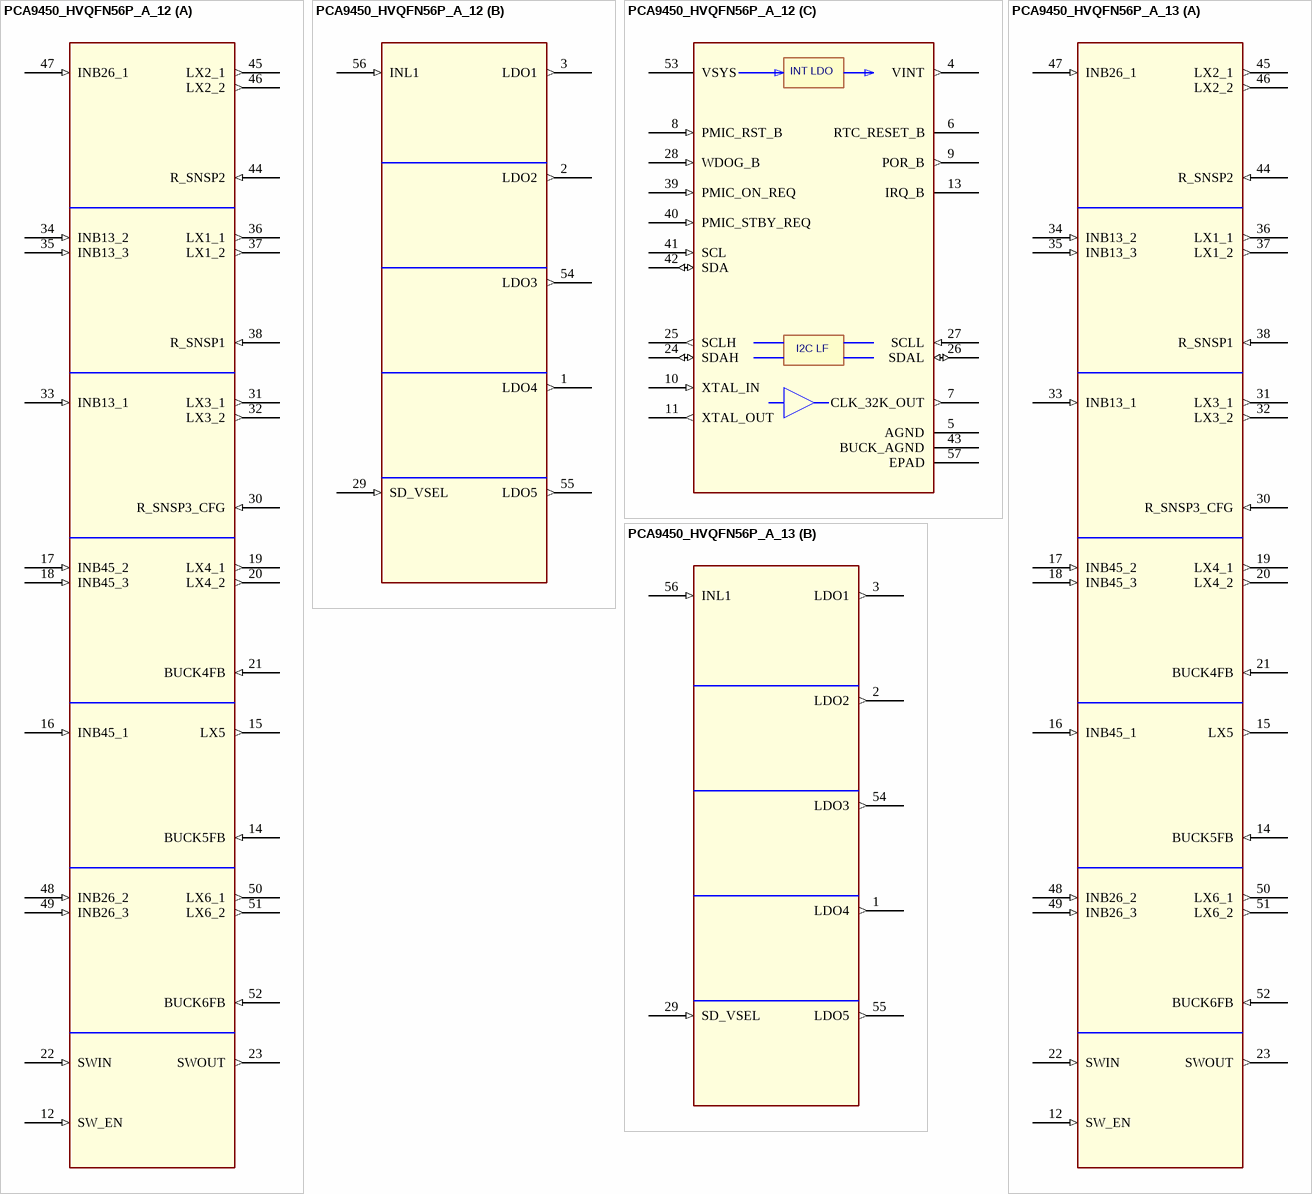
[diagram p20: symbols PCA9450_HVQFN56P_A_12 to PCA9450_HVQFN56P_A_13]

## PCA9450_HVQFN56P_A_12
designator U?
CLASS: IC; SPLIT_INST: TRUE; SWAP_INFO: (S1+S2+S3)
part A pins: 12 SW_EN (in), 14 BUCK5FB (in), 15 LX5 (out), 16 INB45_1 (in), 17 INB45_2 (in), 18 INB45_3 (in), 19 LX4_1 (out), 20 LX4_2 (out), 21 BUCK4FB (in), 22 SWIN (in), 23 SWOUT (out), 30 R_SNSP3_CFG (in), 31 LX3_1 (out), 32 LX3_2 (out), 33 INB13_1 (in), 34 INB13_2 (in), 35 INB13_3 (in), 36 LX1_1 (out), 37 LX1_2 (out), 38 R_SNSP1 (in), 44 R_SNSP2 (in), 45 LX2_1 (out), 46 LX2_2 (out), 47 INB26_1 (in), 48 INB26_2 (in), 49 INB26_3 (in), 50 LX6_1 (out), 51 LX6_2 (out), 52 BUCK6FB (in)
part B pins: 1 LDO4 (out), 2 LDO2 (out), 3 LDO1 (out), 29 SD_VSEL (in), 54 LDO3 (out), 55 LDO5 (out), 56 INL1 (in)
part C pins: 4 VINT (out), 5 AGND (power), 6 RTC_RESET_B (oc), 7 CLK_32K_OUT (out), 8 PMIC_RST_B (in), 9 POR_B (out), 10 XTAL_IN (in), 11 XTAL_OUT (out), 13 IRQ_B (oc), 24 SDAH (io), 25 SCLH (out), 26 SDAL (io), 27 SCLL (in), 28 WDOG_B (in), 39 PMIC_ON_REQ (in), 40 PMIC_STBY_REQ (in), 41 SCL (in), 42 SDA (io), 43 BUCK_AGND (power), 53 VSYS (power), 57 EPAD (power)
part C text: INT LDO; I2C LF

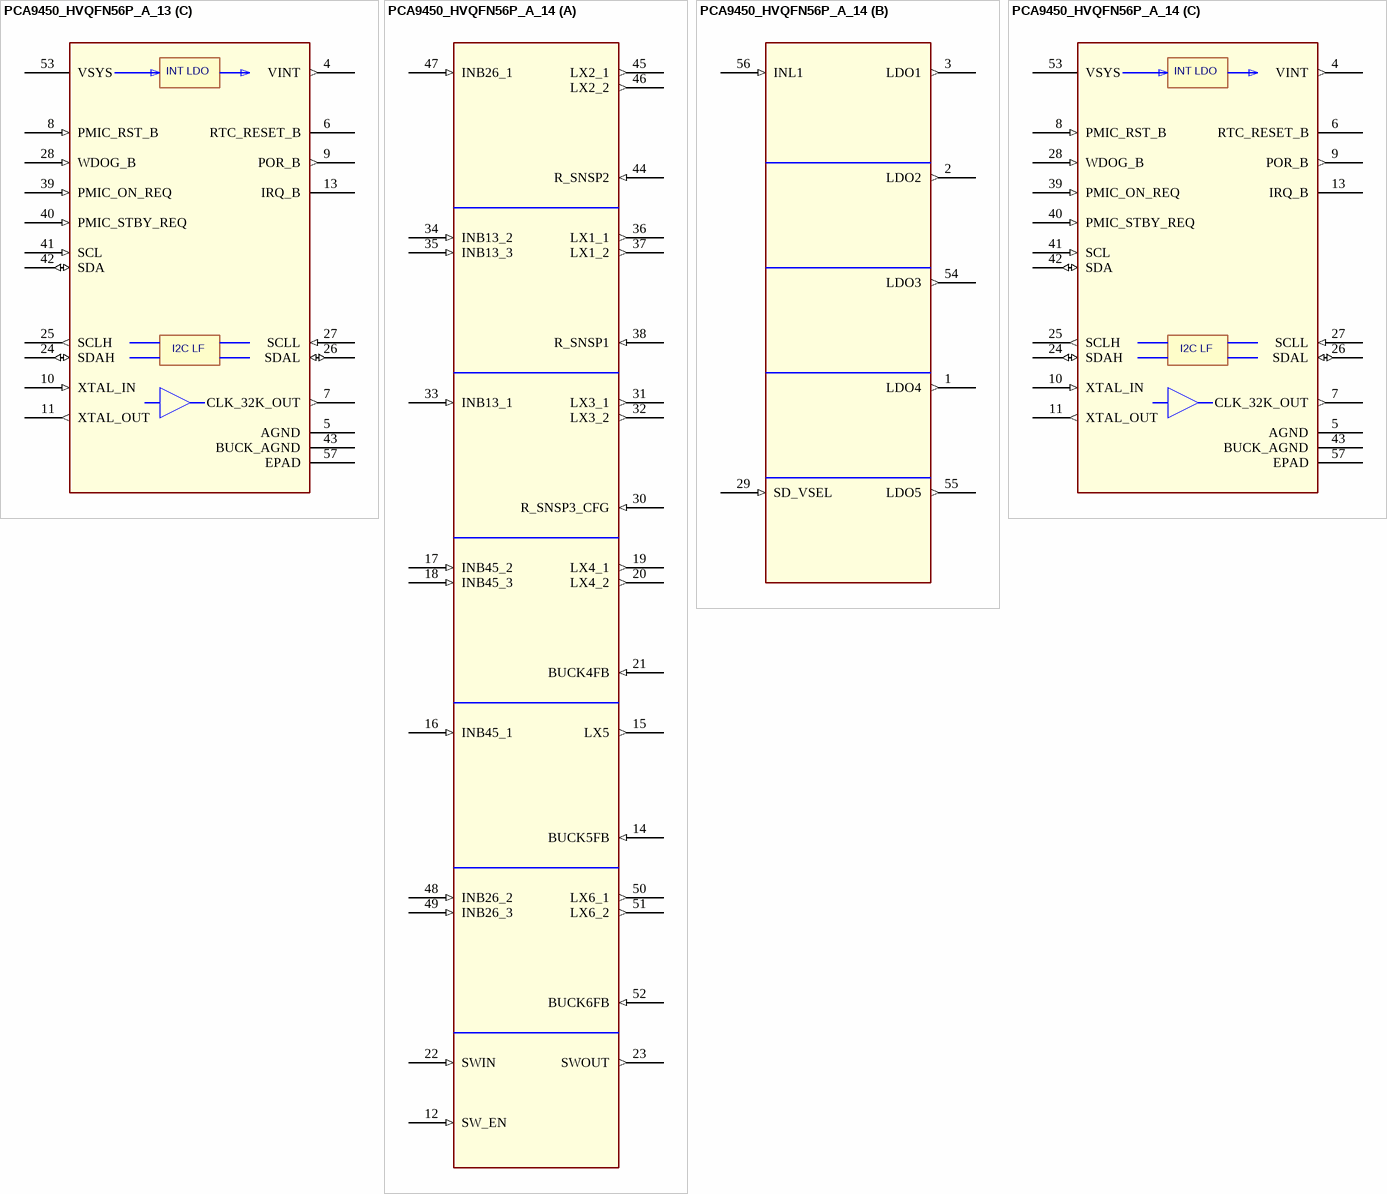
[diagram p21: symbols PCA9450_HVQFN56P_A_13 to PCA9450_HVQFN56P_A_14]

## PCA9450_HVQFN56P_A_13
designator U?
CLASS: IC; SPLIT_INST: TRUE; SWAP_INFO: (S1+S2+S3)
part A pins: 12 SW_EN (in), 14 BUCK5FB (in), 15 LX5 (out), 16 INB45_1 (in), 17 INB45_2 (in), 18 INB45_3 (in), 19 LX4_1 (out), 20 LX4_2 (out), 21 BUCK4FB (in), 22 SWIN (in), 23 SWOUT (out), 30 R_SNSP3_CFG (in), 31 LX3_1 (out), 32 LX3_2 (out), 33 INB13_1 (in), 34 INB13_2 (in), 35 INB13_3 (in), 36 LX1_1 (out), 37 LX1_2 (out), 38 R_SNSP1 (in), 44 R_SNSP2 (in), 45 LX2_1 (out), 46 LX2_2 (out), 47 INB26_1 (in), 48 INB26_2 (in), 49 INB26_3 (in), 50 LX6_1 (out), 51 LX6_2 (out), 52 BUCK6FB (in)
part B pins: 1 LDO4 (out), 2 LDO2 (out), 3 LDO1 (out), 29 SD_VSEL (in), 54 LDO3 (out), 55 LDO5 (out), 56 INL1 (in)
part C pins: 4 VINT (out), 5 AGND (power), 6 RTC_RESET_B (oc), 7 CLK_32K_OUT (out), 8 PMIC_RST_B (in), 9 POR_B (out), 10 XTAL_IN (in), 11 XTAL_OUT (out), 13 IRQ_B (oc), 24 SDAH (io), 25 SCLH (out), 26 SDAL (io), 27 SCLL (in), 28 WDOG_B (in), 39 PMIC_ON_REQ (in), 40 PMIC_STBY_REQ (in), 41 SCL (in), 42 SDA (io), 43 BUCK_AGND (power), 53 VSYS (power), 57 EPAD (power)
part C text: INT LDO; I2C LF

## PCA9450_HVQFN56P_A_14
designator U?
CLASS: IC; SPLIT_INST: TRUE; SWAP_INFO: (S1+S2+S3)
part A pins: 12 SW_EN (in), 14 BUCK5FB (in), 15 LX5 (out), 16 INB45_1 (in), 17 INB45_2 (in), 18 INB45_3 (in), 19 LX4_1 (out), 20 LX4_2 (out), 21 BUCK4FB (in), 22 SWIN (in), 23 SWOUT (out), 30 R_SNSP3_CFG (in), 31 LX3_1 (out), 32 LX3_2 (out), 33 INB13_1 (in), 34 INB13_2 (in), 35 INB13_3 (in), 36 LX1_1 (out), 37 LX1_2 (out), 38 R_SNSP1 (in), 44 R_SNSP2 (in), 45 LX2_1 (out), 46 LX2_2 (out), 47 INB26_1 (in), 48 INB26_2 (in), 49 INB26_3 (in), 50 LX6_1 (out), 51 LX6_2 (out), 52 BUCK6FB (in)
part B pins: 1 LDO4 (out), 2 LDO2 (out), 3 LDO1 (out), 29 SD_VSEL (in), 54 LDO3 (out), 55 LDO5 (out), 56 INL1 (in)
part C pins: 4 VINT (out), 5 AGND (power), 6 RTC_RESET_B (oc), 7 CLK_32K_OUT (out), 8 PMIC_RST_B (in), 9 POR_B (out), 10 XTAL_IN (in), 11 XTAL_OUT (out), 13 IRQ_B (oc), 24 SDAH (io), 25 SCLH (out), 26 SDAL (io), 27 SCLL (in), 28 WDOG_B (in), 39 PMIC_ON_REQ (in), 40 PMIC_STBY_REQ (in), 41 SCL (in), 42 SDA (io), 43 BUCK_AGND (power), 53 VSYS (power), 57 EPAD (power)
part C text: INT LDO; I2C LF

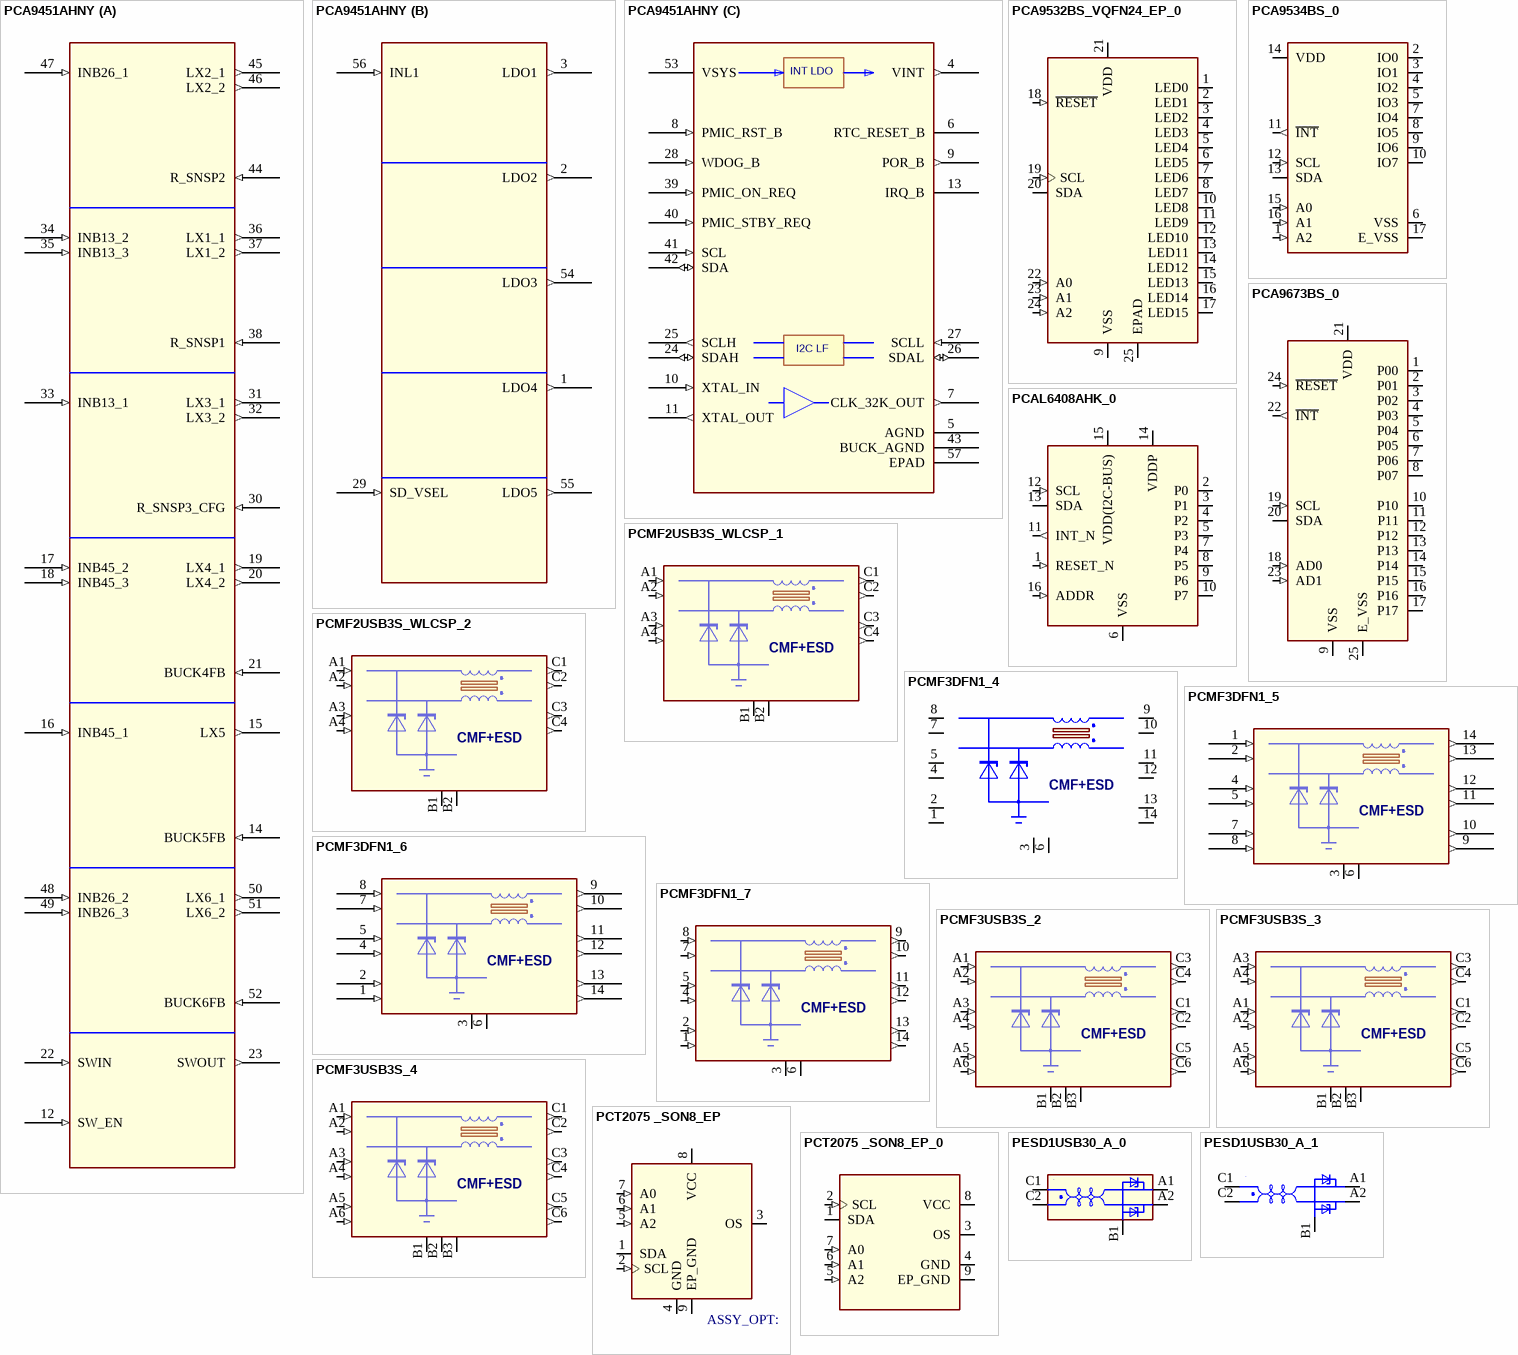
[diagram p22: symbols PCA9451AHNY to PESD1USB30_A_1]

## PCA9451AHNY
designator U?
SWAP_INFO: (S1+S2+S3); SPLIT_INST: TRUE; CLASS: IC
part A pins: 12 SW_EN (in), 14 BUCK5FB (in), 15 LX5 (out), 16 INB45_1 (in), 17 INB45_2 (in), 18 INB45_3 (in), 19 LX4_1 (out), 20 LX4_2 (out), 21 BUCK4FB (in), 22 SWIN (in), 23 SWOUT (out), 30 R_SNSP3_CFG (in), 31 LX3_1 (out), 32 LX3_2 (out), 33 INB13_1 (in), 34 INB13_2 (in), 35 INB13_3 (in), 36 LX1_1 (out), 37 LX1_2 (out), 38 R_SNSP1 (in), 44 R_SNSP2 (in), 45 LX2_1 (out), 46 LX2_2 (out), 47 INB26_1 (in), 48 INB26_2 (in), 49 INB26_3 (in), 50 LX6_1 (out), 51 LX6_2 (out), 52 BUCK6FB (in)
part B pins: 1 LDO4 (out), 2 LDO2 (out), 3 LDO1 (out), 29 SD_VSEL (in), 54 LDO3 (out), 55 LDO5 (out), 56 INL1 (in)
part C pins: 4 VINT (out), 5 AGND (power), 6 RTC_RESET_B (oc), 7 CLK_32K_OUT (out), 8 PMIC_RST_B (in), 9 POR_B (out), 10 XTAL_IN (in), 11 XTAL_OUT (out), 13 IRQ_B (oc), 24 SDAH (io), 25 SCLH (out), 26 SDAL (io), 27 SCLL (in), 28 WDOG_B (in), 39 PMIC_ON_REQ (in), 40 PMIC_STBY_REQ (in), 41 SCL (in), 42 SDA (io), 43 BUCK_AGND (power), 53 VSYS (power), 57 EPAD (power)
part C text: INT LDO; I2C LF

## PCA9532BS_VQFN24_EP_0
designator U?
CLASS: IC
pins: 1 LED0 (io), 2 LED1 (io), 3 LED2 (io), 4 LED3 (io), 5 LED4 (io), 6 LED5 (io), 7 LED6 (io), 8 LED7 (io), 9 VSS (power), 10 LED8 (io), 11 LED9 (io), 12 LED10 (io), 13 LED11 (io), 14 LED12 (io), 15 LED13 (io), 16 LED14 (io), 17 LED15 (io), 18 ~{RESET} (in), 19 SCL (in), 20 SDA (io), 21 VDD (power), 22 A0 (in), 23 A1 (in), 24 A2 (in), 25 EPAD (power)

## PCA9534BS_0
designator U?
Manufacturer: Guess; CLASS: IC; DeviceDesignator: A; DeviceNumbering: Alpha; DevicesInPackage: 1; IsHeterogeneous: False; OriginalSymbolOrigin: (30000,20000); PCB Footprint: SOT629-1; Vendor: None; DevicesInView: 1; PackageName: PCA9534BS; PackageStyle: Blue
footprint SOT629-1
pins: 1 A2 (in), 2 IO0 (io), 3 IO1 (io), 4 IO2 (io), 5 IO3 (io), 6 VSS (power), 7 IO4 (io), 8 IO5 (io), 9 IO6 (io), 10 IO7 (io), 11 ~{INT} (out), 12 SCL (in), 13 SDA (io), 14 VDD (power), 15 A0 (in), 16 A1 (in), 17 E_VSS (power)

## PCA9673BS_0
designator U?
Manufacturer: Guess; CLASS: IC; DeviceDesignator: A; DeviceNumbering: Alpha; DevicesInPackage: 1; IsHeterogeneous: False; OriginalSymbolOrigin: (30000,20000); PCB Footprint: SOT616-1; Vendor: None; DevicesInView: 1; PackageName: PCA9673BS; PackageStyle: Blue
footprint SOT616-1
pins: 1 P00 (io), 2 P01 (io), 3 P02 (io), 4 P03 (io), 5 P04 (io), 6 P05 (io), 7 P06 (io), 8 P07 (io), 9 VSS (power), 10 P10 (io), 11 P11 (io), 12 P12 (io), 13 P13 (io), 14 P14 (io), 15 P15 (io), 16 P16 (io), 17 P17 (io), 18 AD0 (in), 19 SCL (in), 20 SDA (io), 21 VDD (power), 22 ~{INT} (out), 23 AD1 (in), 24 ~{RESET} (in), 25 E_VSS (power)

## PCAL6408AHK_0
designator U?
Manufacturer: Guess; Vendor: None; PCB Footprint: SOT1161-1; OriginalSymbolOrigin: (30000,20000); IsHeterogeneous: False; DevicesInView: 1; DeviceNumbering: Alpha; DeviceDesignator: A; CLASS: IC; PackageStyle: Blue; PackageName: PCAL6408AHK; DevicesInPackage: 1
footprint SOT1161-1
pins: 1 RESET_N (in), 2 P0 (io), 3 P1 (io), 4 P2 (io), 5 P3 (io), 6 VSS (power), 7 P4 (io), 8 P5 (io), 9 P6 (io), 10 P7 (io), 11 INT_N (out), 12 SCL (in), 13 SDA (io), 14 VDDP (power), 15 VDD(I2C-BUS) (power), 16 ADDR (in)

## PCMF2USB3S_WLCSP_1
designator U?
CLASS: IC
pins: A1 CH1_IN+ (in), A2 CH1_IN- (in), A3 CH2_IN+ (in), A4 CH2_IN- (in), B1 GND_CH1 (power), B2 GND_CH2 (power), C1 CH1_OUT+ (out), C2 CH1_OUT- (out), C3 CH2_OUT+ (out), C4 CH2_OUT- (out)
text: CMF+ESD

## PCMF2USB3S_WLCSP_2
designator U?
CLASS: IC
pins: A1 CH1_IN+ (in), A2 CH1_IN- (in), A3 CH2_IN+ (in), A4 CH2_IN- (in), B1 GND_CH1 (power), B2 GND_CH2 (power), C1 CH1_OUT+ (out), C2 CH1_OUT- (out), C3 CH2_OUT+ (out), C4 CH2_OUT- (out)
text: CMF+ESD

## PCMF3DFN1_4
designator U?
CLASS: IC
footprint SOT1334-1
pins: 1 CH1_IN+, 2 CH1_IN-, 3 GND_1, 4 CH2_IN+, 5 CH2_IN-, 6 GND_2, 7 CH3_IN+, 8 CH3_IN-, 9 CH3_OUT-, 10 CH3_OUT+, 11 CH2_OUT-, 12 CH2_OUT+, 13 CH1_OUT-, 14 CH1_OUT+
text: CMF+ESD

## PCMF3DFN1_5
designator U?
CLASS: IC
pins: 1 CH1_IN+ (in), 2 CH1_IN- (in), 3 GND_1 (power), 4 CH2_IN+ (in), 5 CH2_IN- (in), 6 GND_2 (power), 7 CH3_IN+ (in), 8 CH3_IN- (in), 9 CH3_OUT- (out), 10 CH3_OUT+ (out), 11 CH2_OUT- (out), 12 CH2_OUT+ (out), 13 CH1_OUT- (out), 14 CH1_OUT+ (out)
text: CMF+ESD

## PCMF3DFN1_6
designator U?
CLASS: IC
pins: 1 CH1_IN+ (in), 2 CH1_IN- (in), 3 GND_1 (power), 4 CH2_IN+ (in), 5 CH2_IN- (in), 6 GND_2 (power), 7 CH3_IN+ (in), 8 CH3_IN- (in), 9 CH3_OUT- (out), 10 CH3_OUT+ (out), 11 CH2_OUT- (out), 12 CH2_OUT+ (out), 13 CH1_OUT- (out), 14 CH1_OUT+ (out)
text: CMF+ESD

## PCMF3DFN1_7
designator U?
CLASS: IC
pins: 1 CH1_IN+ (in), 2 CH1_IN- (in), 3 GND_1 (power), 4 CH2_IN+ (in), 5 CH2_IN- (in), 6 GND_2 (power), 7 CH3_IN+ (in), 8 CH3_IN- (in), 9 CH3_OUT- (out), 10 CH3_OUT+ (out), 11 CH2_OUT- (out), 12 CH2_OUT+ (out), 13 CH1_OUT- (out), 14 CH1_OUT+ (out)
text: CMF+ESD

## PCMF3USB3S_2
designator U?
CLASS: IC
pins: A1 CH1_IN+ (in), A2 CH1_IN- (in), A3 CH2_IN+ (in), A4 CH2_IN- (in), A5 CH3_IN+ (in), A6 CH3_IN- (in), B1 GND_CH1 (power), B2 GND_CH2 (power), B3 GND_CH3 (power), C1 CH1_OUT+ (out), C2 CH1_OUT- (out), C3 CH2_OUT+ (out), C4 CH2_OUT- (out), C5 CH3_OUT+ (out), C6 CH3_OUT- (out)
text: CMF+ESD

## PCMF3USB3S_3
designator U?
CLASS: IC
pins: A1 CH1_IN+ (in), A2 CH1_IN- (in), A3 CH2_IN+ (in), A4 CH2_IN- (in), A5 CH3_IN+ (in), A6 CH3_IN- (in), B1 GND_CH1 (power), B2 GND_CH2 (power), B3 GND_CH3 (power), C1 CH1_OUT+ (out), C2 CH1_OUT- (out), C3 CH2_OUT+ (out), C4 CH2_OUT- (out), C5 CH3_OUT+ (out), C6 CH3_OUT- (out)
text: CMF+ESD

## PCMF3USB3S_4
designator U?
CLASS: IC
pins: A1 CH1_IN+ (in), A2 CH1_IN- (in), A3 CH2_IN+ (in), A4 CH2_IN- (in), A5 CH3_IN+ (in), A6 CH3_IN- (in), B1 GND_CH1 (power), B2 GND_CH2 (power), B3 GND_CH3 (power), C1 CH1_OUT+ (out), C2 CH1_OUT- (out), C3 CH2_OUT+ (out), C4 CH2_OUT- (out), C5 CH3_OUT+ (out), C6 CH3_OUT- (out)
text: CMF+ESD

## PCT2075 _SON8_EP
designator U?
CLASS: IC
footprint MSOP_8_0P65_3X3
pins: 1 SDA (io), 2 SCL (in), 3 OS (oc), 4 GND (power), 5 A2 (in), 6 A1 (in), 7 A0 (in), 8 VCC (power), 9 EP_GND (power)

## PCT2075 _SON8_EP_0
designator U?
CLASS: IC
footprint MSOP_8_0P65_3X3
pins: 1 SDA (io), 2 SCL (in), 3 OS (oc), 4 GND (power), 5 A2 (in), 6 A1 (in), 7 A0 (in), 8 VCC (power), 9 EP_GND (power)

## PESD1USB30_A_0
designator U?
Manufacturer Part Number: PESD1USB30; Manufacturer: NXP Semiconductors; CLASS: IC
pins: A1 CH1_IN+ (io), A2 CH1_IN- (io), B1 GND (power), C1 CH1_OUT+ (io), C2 CH1_OUT- (io)

## PESD1USB30_A_1
designator U?
Manufacturer Part Number: PESD1USB30; Manufacturer: NXP Semiconductors; CLASS: IC
pins: A1 CH1_IN+ (io), A2 CH1_IN- (io), B1 GND (power), C1 CH1_OUT+ (io), C2 CH1_OUT- (io)

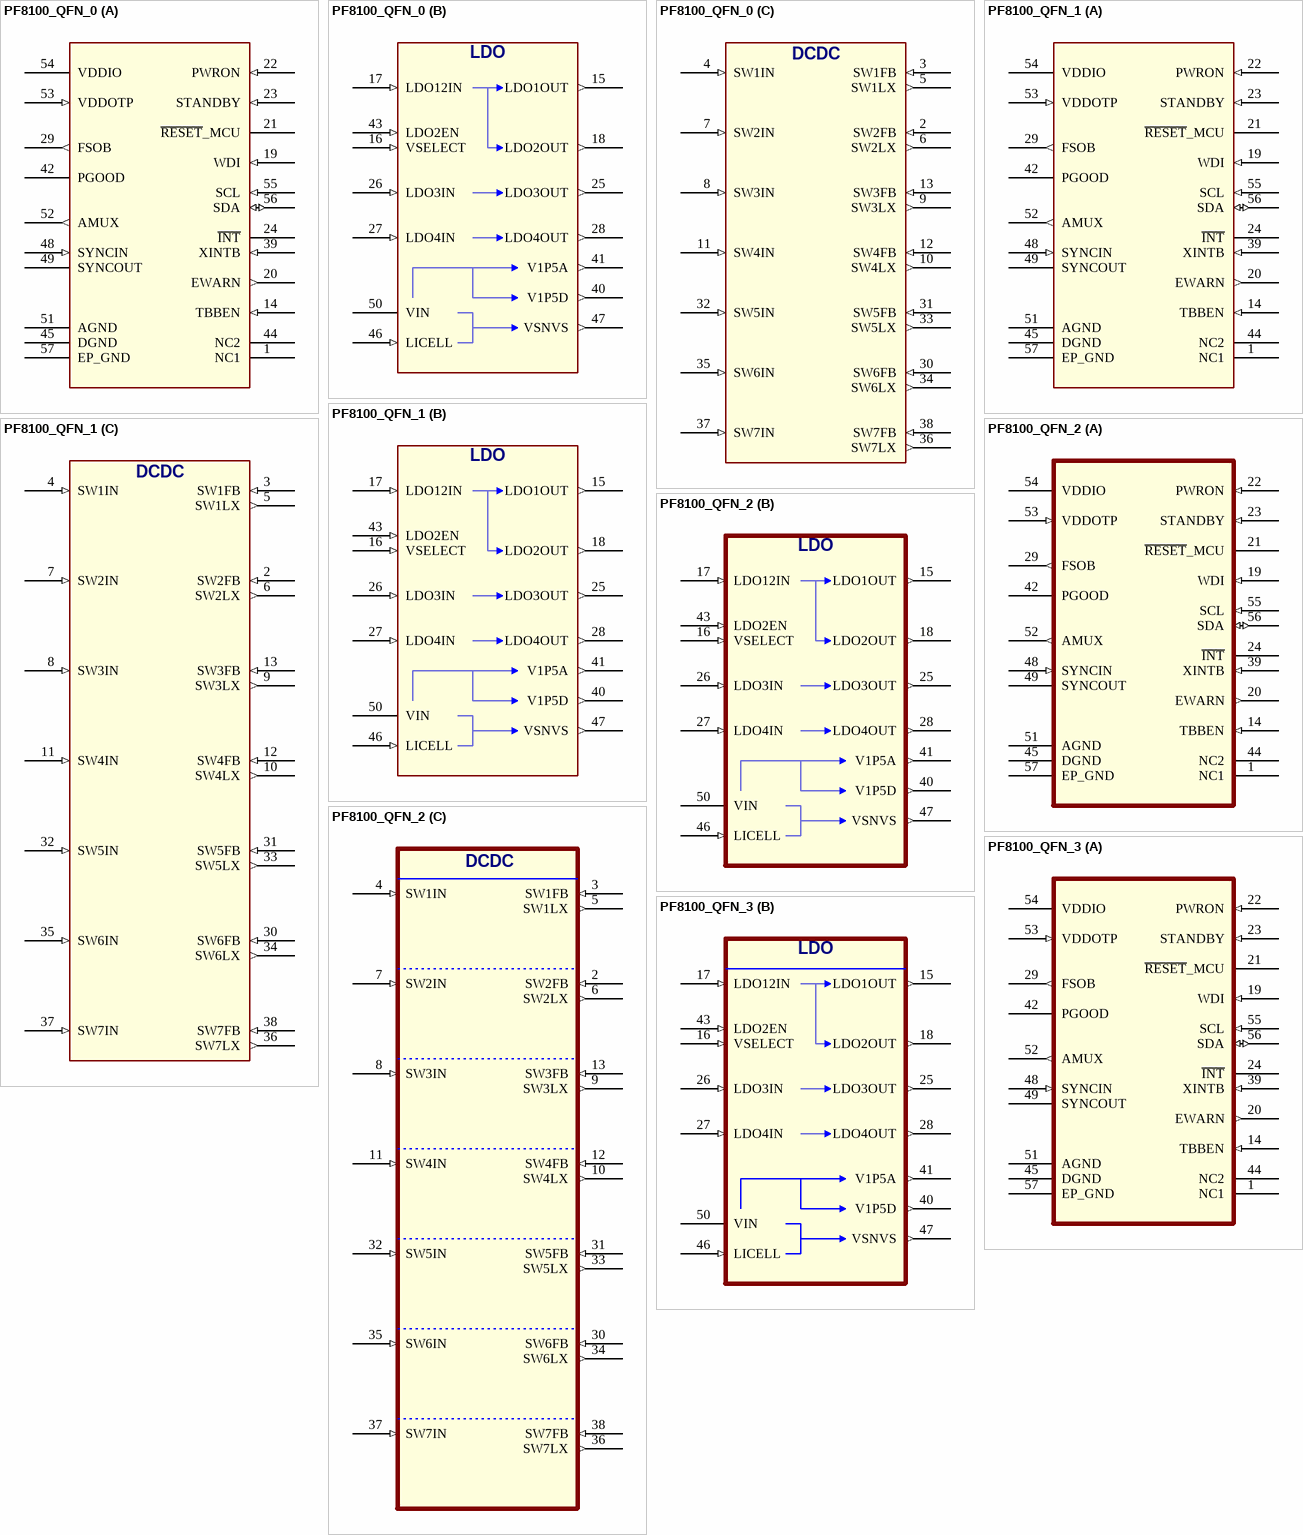
[diagram p23: symbols PF8100_QFN_0 to PF8100_QFN_3]

## PF8100_QFN_0
designator U?
SWAP_INFO: (S1+S2+S3); SPLIT_INST: TRUE; CLASS: IC
part A pins: 1 NC1, 14 TBBEN (in), 19 WDI (in), 20 EWARN (out), 21 ~{RESET}_MCU (oc), 22 PWRON (in), 23 STANDBY (in), 24 ~{INT} (oc), 29 FSOB (out), 39 XINTB (in), 42 PGOOD (oc), 44 NC2, 45 DGND (power), 48 SYNCIN (in), 49 SYNCOUT, 51 AGND (power), 52 AMUX (out), 53 VDDOTP (in), 54 VDDIO (power), 55 SCL (in), 56 SDA (io), 57 EP_GND (power)
part B pins: 15 LDO1OUT (out), 16 VSELECT (in), 17 LDO12IN (in), 18 LDO2OUT (out), 25 LDO3OUT (out), 26 LDO3IN (in), 27 LDO4IN (in), 28 LDO4OUT (out), 40 V1P5D (out), 41 V1P5A (out), 43 LDO2EN (in), 46 LICELL (in), 47 VSNVS (out), 50 VIN (power)
part C pins: 2 SW2FB (in), 3 SW1FB (in), 4 SW1IN (in), 5 SW1LX (out), 6 SW2LX (out), 7 SW2IN (in), 8 SW3IN (in), 9 SW3LX (out), 10 SW4LX (out), 11 SW4IN (in), 12 SW4FB (in), 13 SW3FB (in), 30 SW6FB (in), 31 SW5FB (in), 32 SW5IN (in), 33 SW5LX (out), 34 SW6LX (out), 35 SW6IN (in), 36 SW7LX (out), 37 SW7IN (in), 38 SW7FB (in)
part B text: LDO
part C text: DCDC

## PF8100_QFN_1
designator U?
SWAP_INFO: (S1+S2+S3); SPLIT_INST: TRUE; CLASS: IC
part A pins: 1 NC1, 14 TBBEN (in), 19 WDI (in), 20 EWARN (out), 21 ~{RESET}_MCU (oc), 22 PWRON (in), 23 STANDBY (in), 24 ~{INT} (oc), 29 FSOB (out), 39 XINTB (in), 42 PGOOD (oc), 44 NC2, 45 DGND (power), 48 SYNCIN (in), 49 SYNCOUT, 51 AGND (power), 52 AMUX (out), 53 VDDOTP (in), 54 VDDIO (power), 55 SCL (in), 56 SDA (io), 57 EP_GND (power)
part B pins: 15 LDO1OUT (out), 16 VSELECT (in), 17 LDO12IN (in), 18 LDO2OUT (out), 25 LDO3OUT (out), 26 LDO3IN (in), 27 LDO4IN (in), 28 LDO4OUT (out), 40 V1P5D (out), 41 V1P5A (out), 43 LDO2EN (in), 46 LICELL (in), 47 VSNVS (out), 50 VIN (power)
part C pins: 2 SW2FB (in), 3 SW1FB (in), 4 SW1IN (in), 5 SW1LX (out), 6 SW2LX (out), 7 SW2IN (in), 8 SW3IN (in), 9 SW3LX (out), 10 SW4LX (out), 11 SW4IN (in), 12 SW4FB (in), 13 SW3FB (in), 30 SW6FB (in), 31 SW5FB (in), 32 SW5IN (in), 33 SW5LX (out), 34 SW6LX (out), 35 SW6IN (in), 36 SW7LX (out), 37 SW7IN (in), 38 SW7FB (in)
part B text: LDO
part C text: DCDC

## PF8100_QFN_2
designator U?
SWAP_INFO: (S1+S2+S3); SPLIT_INST: TRUE; CLASS: IC
part A pins: 1 NC1, 14 TBBEN (in), 19 WDI (in), 20 EWARN (out), 21 ~{RESET}_MCU (oc), 22 PWRON (in), 23 STANDBY (in), 24 ~{INT} (oc), 29 FSOB (out), 39 XINTB (in), 42 PGOOD (oc), 44 NC2, 45 DGND (power), 48 SYNCIN (in), 49 SYNCOUT, 51 AGND (power), 52 AMUX (out), 53 VDDOTP (in), 54 VDDIO (power), 55 SCL (in), 56 SDA (io), 57 EP_GND (power)
part B pins: 15 LDO1OUT (out), 16 VSELECT (in), 17 LDO12IN (in), 18 LDO2OUT (out), 25 LDO3OUT (out), 26 LDO3IN (in), 27 LDO4IN (in), 28 LDO4OUT (out), 40 V1P5D (out), 41 V1P5A (out), 43 LDO2EN (in), 46 LICELL (in), 47 VSNVS (out), 50 VIN (power)
part C pins: 2 SW2FB (in), 3 SW1FB (in), 4 SW1IN (in), 5 SW1LX (out), 6 SW2LX (out), 7 SW2IN (in), 8 SW3IN (in), 9 SW3LX (out), 10 SW4LX (out), 11 SW4IN (in), 12 SW4FB (in), 13 SW3FB (in), 30 SW6FB (in), 31 SW5FB (in), 32 SW5IN (in), 33 SW5LX (out), 34 SW6LX (out), 35 SW6IN (in), 36 SW7LX (out), 37 SW7IN (in), 38 SW7FB (in)
part B text: LDO
part C text: DCDC

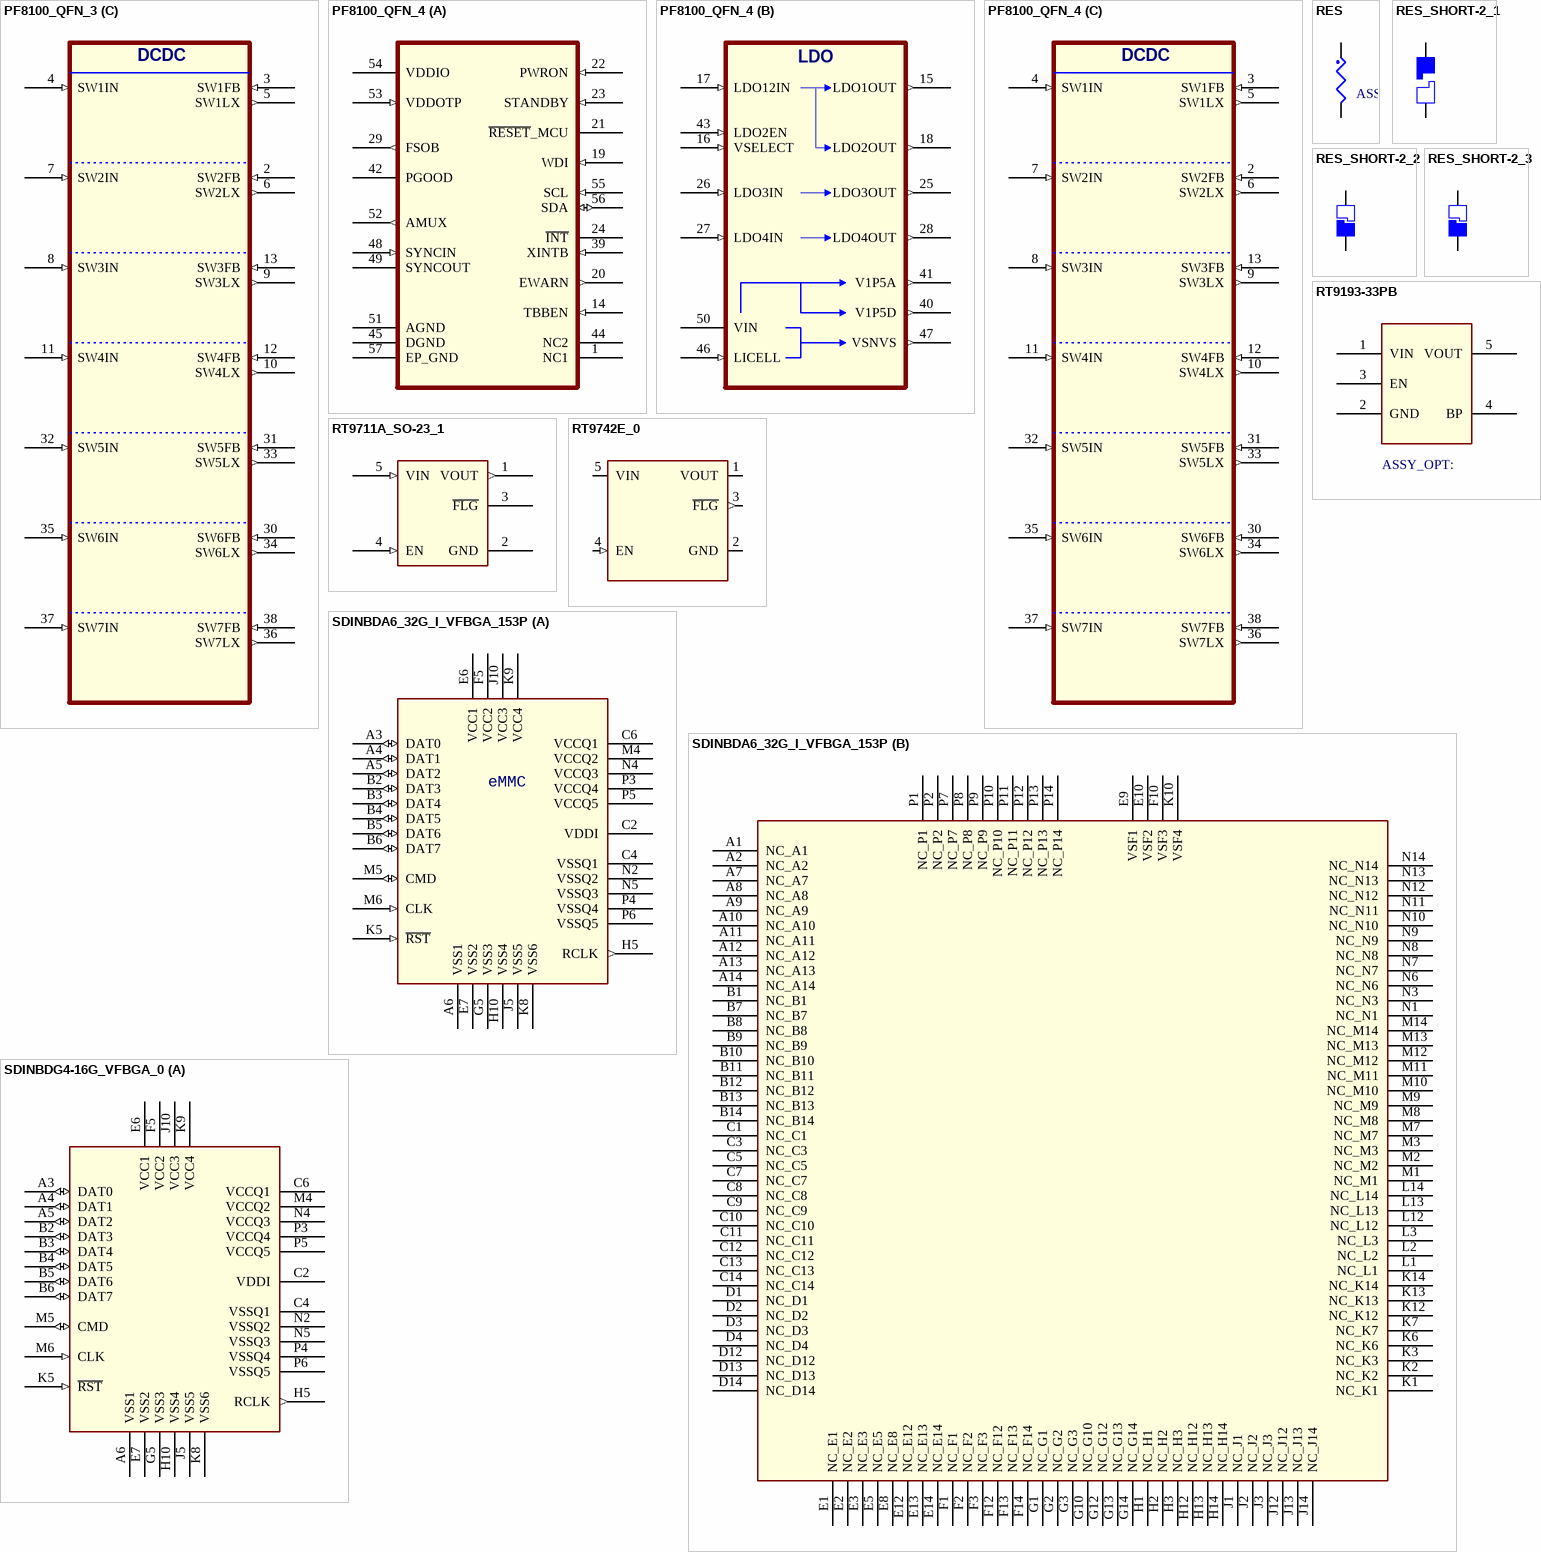
[diagram p24: symbols PF8100_QFN_3 to SDINBDG4-16G_VFBGA_0]

## PF8100_QFN_3
designator U?
SWAP_INFO: (S1+S2+S3); SPLIT_INST: TRUE; CLASS: IC
part A pins: 1 NC1, 14 TBBEN (in), 19 WDI (in), 20 EWARN (out), 21 ~{RESET}_MCU (oc), 22 PWRON (in), 23 STANDBY (in), 24 ~{INT} (oc), 29 FSOB (out), 39 XINTB (in), 42 PGOOD (oc), 44 NC2, 45 DGND (power), 48 SYNCIN (in), 49 SYNCOUT, 51 AGND (power), 52 AMUX (out), 53 VDDOTP (in), 54 VDDIO (power), 55 SCL (in), 56 SDA (io), 57 EP_GND (power)
part B pins: 15 LDO1OUT (out), 16 VSELECT (in), 17 LDO12IN (in), 18 LDO2OUT (out), 25 LDO3OUT (out), 26 LDO3IN (in), 27 LDO4IN (in), 28 LDO4OUT (out), 40 V1P5D (out), 41 V1P5A (out), 43 LDO2EN (in), 46 LICELL (in), 47 VSNVS (out), 50 VIN (power)
part C pins: 2 SW2FB (in), 3 SW1FB (in), 4 SW1IN (in), 5 SW1LX (out), 6 SW2LX (out), 7 SW2IN (in), 8 SW3IN (in), 9 SW3LX (out), 10 SW4LX (out), 11 SW4IN (in), 12 SW4FB (in), 13 SW3FB (in), 30 SW6FB (in), 31 SW5FB (in), 32 SW5IN (in), 33 SW5LX (out), 34 SW6LX (out), 35 SW6IN (in), 36 SW7LX (out), 37 SW7IN (in), 38 SW7FB (in)
part B text: LDO
part C text: DCDC

## PF8100_QFN_4
designator U?
SWAP_INFO: (S1+S2+S3); SPLIT_INST: TRUE; CLASS: IC
part A pins: 1 NC1, 14 TBBEN (in), 19 WDI (in), 20 EWARN (out), 21 ~{RESET}_MCU (oc), 22 PWRON (in), 23 STANDBY (in), 24 ~{INT} (oc), 29 FSOB (out), 39 XINTB (in), 42 PGOOD (oc), 44 NC2, 45 DGND (power), 48 SYNCIN (in), 49 SYNCOUT, 51 AGND (power), 52 AMUX (out), 53 VDDOTP (in), 54 VDDIO (power), 55 SCL (in), 56 SDA (io), 57 EP_GND (power)
part B pins: 15 LDO1OUT (out), 16 VSELECT (in), 17 LDO12IN (in), 18 LDO2OUT (out), 25 LDO3OUT (out), 26 LDO3IN (in), 27 LDO4IN (in), 28 LDO4OUT (out), 40 V1P5D (out), 41 V1P5A (out), 43 LDO2EN (in), 46 LICELL (in), 47 VSNVS (out), 50 VIN (power)
part C pins: 2 SW2FB (in), 3 SW1FB (in), 4 SW1IN (in), 5 SW1LX (out), 6 SW2LX (out), 7 SW2IN (in), 8 SW3IN (in), 9 SW3LX (out), 10 SW4LX (out), 11 SW4IN (in), 12 SW4FB (in), 13 SW3FB (in), 30 SW6FB (in), 31 SW5FB (in), 32 SW5IN (in), 33 SW5LX (out), 34 SW6LX (out), 35 SW6IN (in), 36 SW7LX (out), 37 SW7IN (in), 38 SW7FB (in)
part B text: LDO
part C text: DCDC

## RES
designator R?
CLASS: DISCRETE
pins: 1, 2

## RES_SHORT-2_1
designator SH?
CLASS: DISCRETE
pins: 1, 2

## RES_SHORT-2_2
designator SH?
CLASS: DISCRETE
pins: 1, 2

## RES_SHORT-2_3
designator SH?
CLASS: DISCRETE
pins: 1, 2

## RT9193-33PB
designator U?
CLASS: IC
pins: 1 VIN, 2 GND, 3 EN, 4 BP, 5 VOUT

## RT9711A_SO-23_1
designator U?
CLASS: IC
pins: 1 VOUT (out), 2 GND (power), 3 ~{FLG}, 4 EN (in), 5 VIN (in)

## RT9742E_0
designator U?
CLASS: IC
pins: 1 VOUT (power), 2 GND (power), 3 ~{FLG} (out), 4 EN (in), 5 VIN (power)

## SDINBDA6_32G_I_VFBGA_153P
designator U?
CLASS: IC
part A pins: A3 DAT0 (io), A4 DAT1 (io), A5 DAT2 (io), A6 VSS1 (power), B2 DAT3 (io), B3 DAT4 (io), B4 DAT5 (io), B5 DAT6 (io), B6 DAT7 (io), C2 VDDI (power), C4 VSSQ1 (power), C6 VCCQ1 (power), E6 VCC1 (power), E7 VSS2 (power), F5 VCC2 (power), G5 VSS3 (power), H5 RCLK (out), H10 VSS4 (power), J5 VSS5 (power), J10 VCC3 (power), K5 ~{RST} (in), K8 VSS6 (power), K9 VCC4 (power), M4 VCCQ2 (power), M5 CMD (io), M6 CLK (in), N2 VSSQ2 (power), N4 VCCQ3 (power), N5 VSSQ3 (power), P3 VCCQ4 (power), P4 VSSQ4 (power), P5 VCCQ5 (power), P6 VSSQ5 (power)
part B pins: A1 NC_A1, A2 NC_A2, A7 NC_A7, A8 NC_A8, A9 NC_A9, A10 NC_A10, A11 NC_A11, A12 NC_A12, A13 NC_A13, A14 NC_A14, B1 NC_B1, B7 NC_B7, B8 NC_B8, B9 NC_B9, B10 NC_B10, B11 NC_B11, B12 NC_B12, B13 NC_B13, B14 NC_B14, C1 NC_C1, C3 NC_C3, C5 NC_C5, C7 NC_C7, C8 NC_C8, C9 NC_C9, C10 NC_C10, C11 NC_C11, C12 NC_C12, C13 NC_C13, C14 NC_C14, D1 NC_D1, D2 NC_D2, D3 NC_D3, D4 NC_D4, D12 NC_D12, D13 NC_D13, D14 NC_D14, E1 NC_E1, E2 NC_E2, E3 NC_E3, E5 NC_E5, E8 NC_E8, E9 VSF1, E10 VSF2, E12 NC_E12, E13 NC_E13, E14 NC_E14, F1 NC_F1, F2 NC_F2, F3 NC_F3, F10 VSF3, F12 NC_F12, F13 NC_F13, F14 NC_F14, G1 NC_G1, G2 NC_G2, G3 NC_G3, G10 NC_G10, G12 NC_G12, G13 NC_G13, G14 NC_G14, H1 NC_H1, H2 NC_H2, H3 NC_H3, H12 NC_H12, H13 NC_H13, H14 NC_H14, J1 NC_J1, J2 NC_J2, J3 NC_J3, J12 NC_J12, J13 NC_J13, J14 NC_J14, K1 NC_K1, K2 NC_K2, K3 NC_K3, K6 NC_K6, K7 NC_K7, K10 VSF4, K12 NC_K12, K13 NC_K13, K14 NC_K14, L1 NC_L1, L2 NC_L2, L3 NC_L3, L12 NC_L12, L13 NC_L13, L14 NC_L14, M1 NC_M1, M2 NC_M2, M3 NC_M3, M7 NC_M7, M8 NC_M8, M9 NC_M9, M10 NC_M10, M11 NC_M11, M12 NC_M12, M13 NC_M13, M14 NC_M14, N1 NC_N1, N3 NC_N3, N6 NC_N6, N7 NC_N7, N8 NC_N8, N9 NC_N9, N10 NC_N10, N11 NC_N11, N12 NC_N12, N13 NC_N13, N14 NC_N14, P1 NC_P1, P2 NC_P2, P7 NC_P7, P8 NC_P8, P9 NC_P9, P10 NC_P10, P11 NC_P11, P12 NC_P12, P13 NC_P13, P14 NC_P14
part A text: eMMC

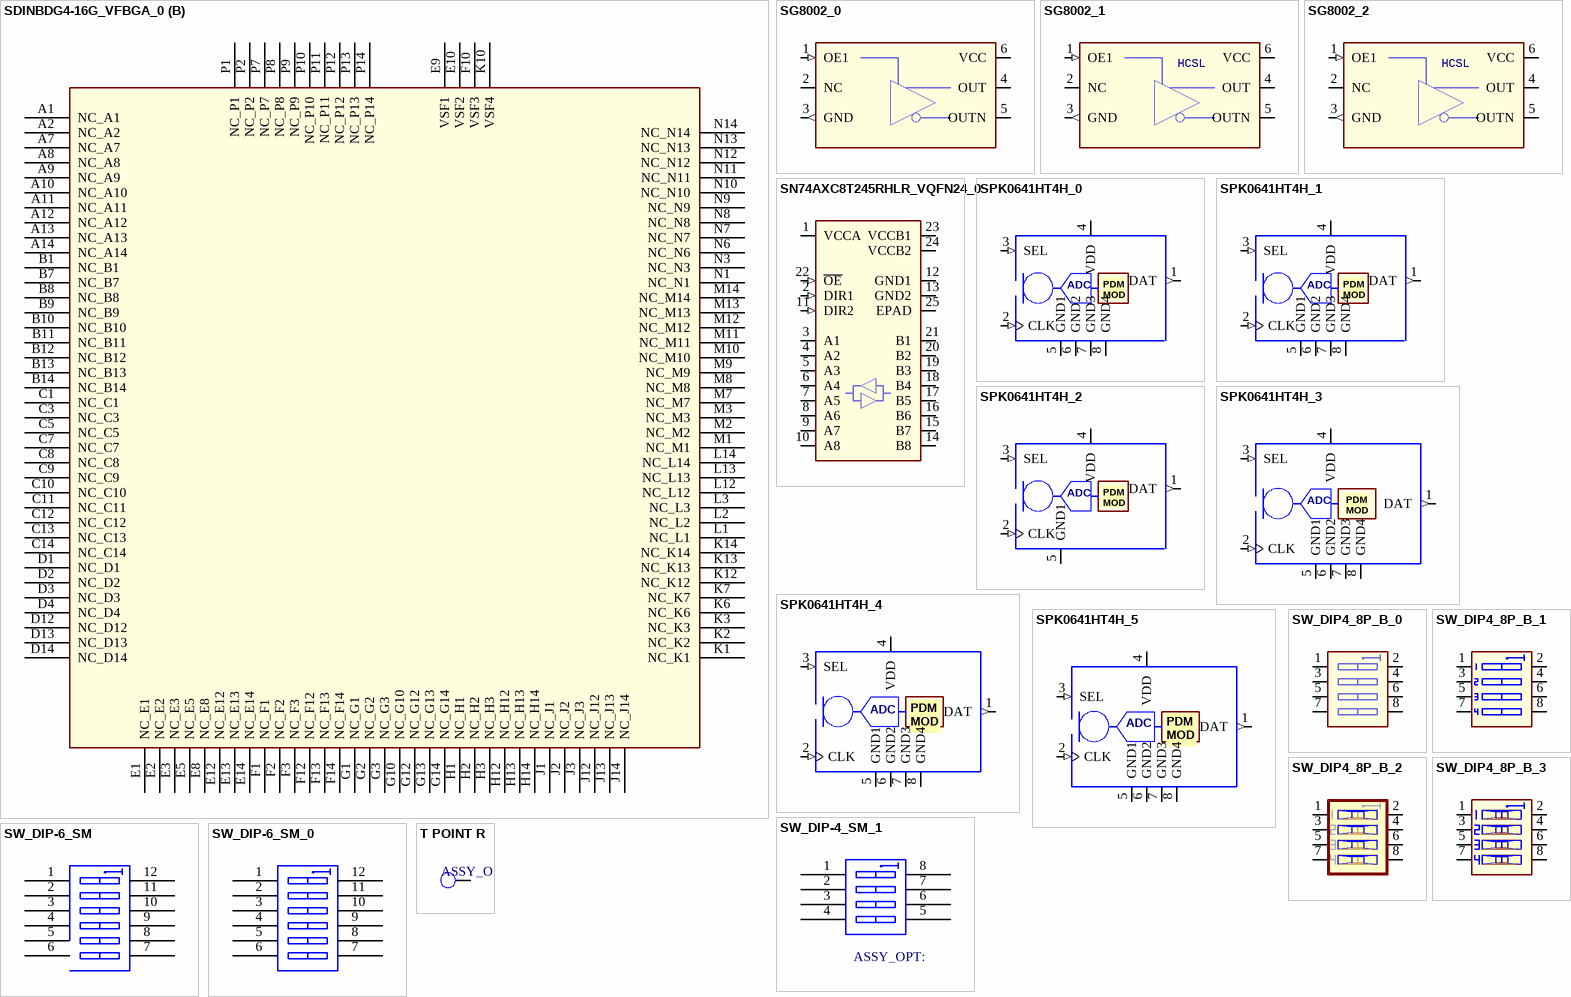
[diagram p25: symbols SDINBDG4-16G_VFBGA_0 to T POINT R]

## SDINBDG4-16G_VFBGA_0
designator U?
CLASS: IC
part A pins: A3 DAT0 (io), A4 DAT1 (io), A5 DAT2 (io), A6 VSS1 (power), B2 DAT3 (io), B3 DAT4 (io), B4 DAT5 (io), B5 DAT6 (io), B6 DAT7 (io), C2 VDDI (power), C4 VSSQ1 (power), C6 VCCQ1 (power), E6 VCC1 (power), E7 VSS2 (power), F5 VCC2 (power), G5 VSS3 (power), H5 RCLK (out), H10 VSS4 (power), J5 VSS5 (power), J10 VCC3 (power), K5 ~{RST} (in), K8 VSS6 (power), K9 VCC4 (power), M4 VCCQ2 (power), M5 CMD (io), M6 CLK (in), N2 VSSQ2 (power), N4 VCCQ3 (power), N5 VSSQ3 (power), P3 VCCQ4 (power), P4 VSSQ4 (power), P5 VCCQ5 (power), P6 VSSQ5 (power)
part B pins: A1 NC_A1, A2 NC_A2, A7 NC_A7, A8 NC_A8, A9 NC_A9, A10 NC_A10, A11 NC_A11, A12 NC_A12, A13 NC_A13, A14 NC_A14, B1 NC_B1, B7 NC_B7, B8 NC_B8, B9 NC_B9, B10 NC_B10, B11 NC_B11, B12 NC_B12, B13 NC_B13, B14 NC_B14, C1 NC_C1, C3 NC_C3, C5 NC_C5, C7 NC_C7, C8 NC_C8, C9 NC_C9, C10 NC_C10, C11 NC_C11, C12 NC_C12, C13 NC_C13, C14 NC_C14, D1 NC_D1, D2 NC_D2, D3 NC_D3, D4 NC_D4, D12 NC_D12, D13 NC_D13, D14 NC_D14, E1 NC_E1, E2 NC_E2, E3 NC_E3, E5 NC_E5, E8 NC_E8, E9 VSF1, E10 VSF2, E12 NC_E12, E13 NC_E13, E14 NC_E14, F1 NC_F1, F2 NC_F2, F3 NC_F3, F10 VSF3, F12 NC_F12, F13 NC_F13, F14 NC_F14, G1 NC_G1, G2 NC_G2, G3 NC_G3, G10 NC_G10, G12 NC_G12, G13 NC_G13, G14 NC_G14, H1 NC_H1, H2 NC_H2, H3 NC_H3, H12 NC_H12, H13 NC_H13, H14 NC_H14, J1 NC_J1, J2 NC_J2, J3 NC_J3, J12 NC_J12, J13 NC_J13, J14 NC_J14, K1 NC_K1, K2 NC_K2, K3 NC_K3, K6 NC_K6, K7 NC_K7, K10 VSF4, K12 NC_K12, K13 NC_K13, K14 NC_K14, L1 NC_L1, L2 NC_L2, L3 NC_L3, L12 NC_L12, L13 NC_L13, L14 NC_L14, M1 NC_M1, M2 NC_M2, M3 NC_M3, M7 NC_M7, M8 NC_M8, M9 NC_M9, M10 NC_M10, M11 NC_M11, M12 NC_M12, M13 NC_M13, M14 NC_M14, N1 NC_N1, N3 NC_N3, N6 NC_N6, N7 NC_N7, N8 NC_N8, N9 NC_N9, N10 NC_N10, N11 NC_N11, N12 NC_N12, N13 NC_N13, N14 NC_N14, P1 NC_P1, P2 NC_P2, P7 NC_P7, P8 NC_P8, P9 NC_P9, P10 NC_P10, P11 NC_P11, P12 NC_P12, P13 NC_P13, P14 NC_P14

## SG8002_0
designator Y?
CLASS: IC
pins: 1 OE1 (in), 2 NC (power), 3 GND (out), 4 OUT (power), 5 OUTN, 6 VCC

## SG8002_1
designator Y?
CLASS: IC
pins: 1 OE1 (in), 2 NC (power), 3 GND (out), 4 OUT (power), 5 OUTN, 6 VCC
text: HCSL

## SG8002_2
designator Y?
CLASS: IC
pins: 1 OE1 (in), 2 NC, 3 GND (out), 4 OUT (power), 5 OUTN, 6 VCC
text: HCSL

## SN74AXC8T245RHLR_VQFN24_0
designator U?
CLASS: IC
pins: 1 VCCA (power), 2 DIR1 (in), 3 A1 (io), 4 A2 (io), 5 A3 (io), 6 A4 (io), 7 A5 (io), 8 A6 (io), 9 A7 (io), 10 A8 (io), 11 DIR2 (in), 12 GND1 (power), 13 GND2 (power), 14 B8 (io), 15 B7 (io), 16 B6 (io), 17 B5 (io), 18 B4 (io), 19 B3 (io), 20 B2 (io), 21 B1 (io), 22 ~{OE} (in), 23 VCCB1 (power), 24 VCCB2 (power), 25 EPAD (power)

## SPK0641HT4H_0
designator U?
CLASS: IC
pins: 1 DAT (out), 2 CLK (in), 3 SEL (in), 4 VDD (power), 5 GND1 (power), 6 GND2 (power), 7 GND3 (power), 8 GND4 (power)
text: PDM / MOD; ADC

## SPK0641HT4H_1
designator U?
CLASS: IC
pins: 1 DAT (out), 2 CLK (in), 3 SEL (in), 4 VDD (power), 5 GND1 (power), 6 GND2 (power), 7 GND3 (power), 8 GND4 (power)
text: PDM / MOD; ADC

## SPK0641HT4H_2
designator U?
CLASS: IC
pins: 1 DAT (out), 2 CLK (in), 3 SEL (in), 4 VDD (power), 5 GND1 (power), 6 GND2 (power) hidden, 7 GND3 (power) hidden, 8 GND4 (power) hidden
text: PDM / MOD; ADC

## SPK0641HT4H_3
designator U?
CLASS: IC
pins: 1 DAT (out), 2 CLK (in), 3 SEL (in), 4 VDD (power), 5 GND1 (power), 6 GND2 (power), 7 GND3 (power), 8 GND4 (power)
text: PDM / MOD; ADC

## SPK0641HT4H_4
designator U?
CLASS: IC
pins: 1 DAT (out), 2 CLK (in), 3 SEL (in), 4 VDD (power), 5 GND1 (power), 6 GND2 (power), 7 GND3 (power), 8 GND4 (power)
text: PDM / MOD; ADC

## SPK0641HT4H_5
designator U?
CLASS: IC
pins: 1 DAT (out), 2 CLK (in), 3 SEL (in), 4 VDD (power), 5 GND1 (power), 6 GND2 (power), 7 GND3 (power), 8 GND4 (power)
text: PDM / MOD; ADC

## SW_DIP4_8P_B_0
designator SW?
CLASS: IC
pins: 1, 2, 3, 4, 5, 6, 7, 8

## SW_DIP4_8P_B_1
designator SW?
CLASS: IC
pins: 1, 2, 3, 4, 5, 6, 7, 8

## SW_DIP4_8P_B_2
designator SW?
CLASS: IC
pins: 1, 2, 3, 4, 5, 6, 7, 8

## SW_DIP4_8P_B_3
designator SW?
CLASS: IC
pins: 1, 2, 3, 4, 5, 6, 7, 8

## SW_DIP-4_SM_1
designator SW?
CLASS: IC
pins: 1 A1, 2 A2, 3 A3, 4 A4, 5 B4, 6 B3, 7 B2, 8 B1

## SW_DIP-6_SM
designator SW?
CLASS: IC
pins: 1 A1, 2 A2, 3 A3, 4 A4, 5 A5, 6 A6, 7 B6, 8 B5, 9 B4, 10 B3, 11 B2, 12 B1

## SW_DIP-6_SM_0
designator SW?
CLASS: IC
pins: 1 A1, 2 A2, 3 A3, 4 A4, 5 A5, 6 A6, 7 B6, 8 B5, 9 B4, 10 B3, 11 B2, 12 B1

## T POINT R
designator TP?  (value not drawn)
CLASS: IC
pins: 1 TP

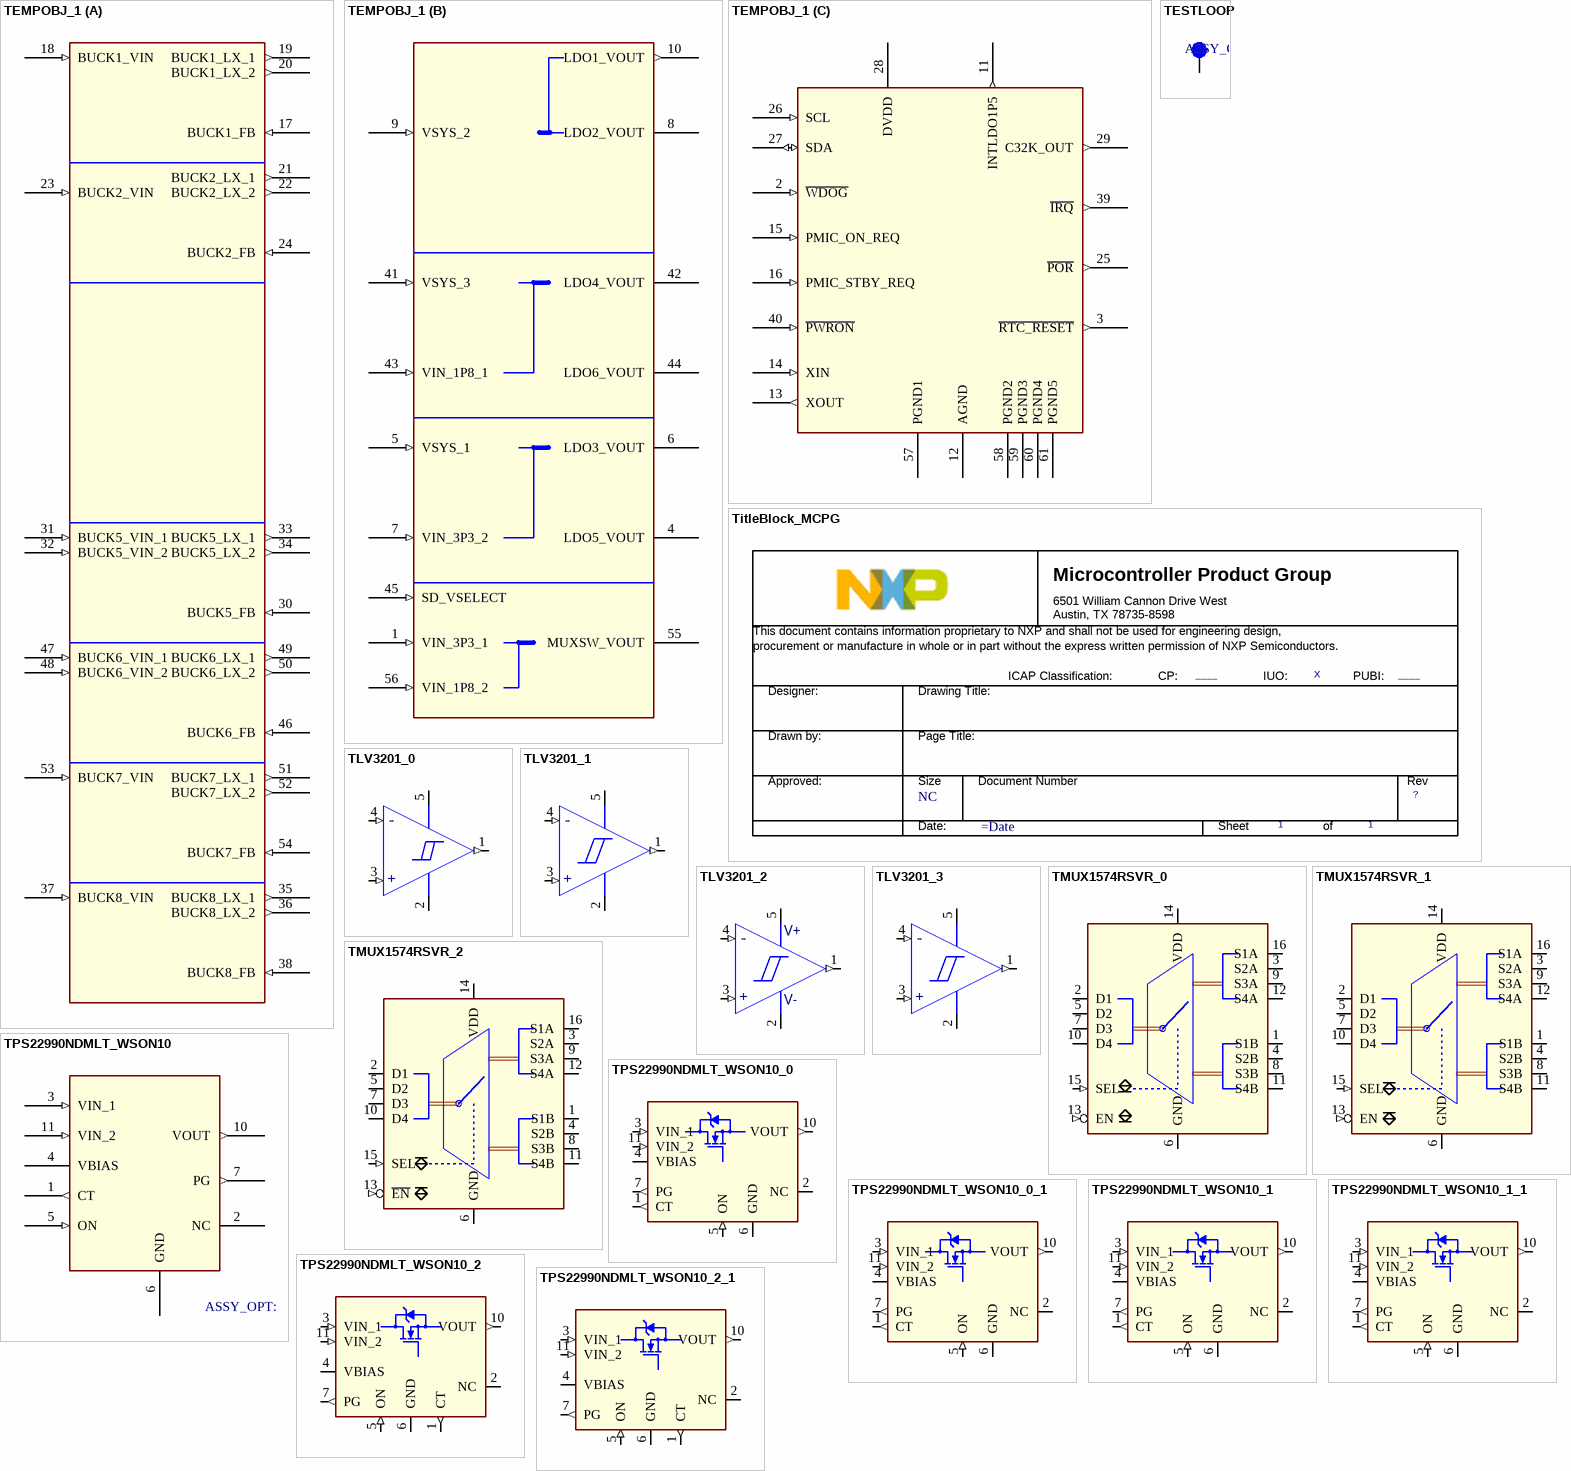
[diagram p26: symbols TEMPOBJ_1 to TPS22990NDMLT_WSON10_2_1]

## TEMPOBJ_1
designator U?
CLASS: IC
footprint BD71837MWV
part A pins: 17 BUCK1_FB (in), 18 BUCK1_VIN (in), 19 BUCK1_LX_1 (out), 20 BUCK1_LX_2 (out), 21 BUCK2_LX_1 (out), 22 BUCK2_LX_2 (out), 23 BUCK2_VIN (in), 24 BUCK2_FB (in), 30 BUCK5_FB (in), 31 BUCK5_VIN_1 (in), 32 BUCK5_VIN_2 (in), 33 BUCK5_LX_1 (out), 34 BUCK5_LX_2 (out), 35 BUCK8_LX_1 (out), 36 BUCK8_LX_2 (out), 37 BUCK8_VIN (in), 38 BUCK8_FB (in), 46 BUCK6_FB (in), 47 BUCK6_VIN_1 (in), 48 BUCK6_VIN_2 (in), 49 BUCK6_LX_1 (out), 50 BUCK6_LX_2 (out), 51 BUCK7_LX_1 (out), 52 BUCK7_LX_2 (out), 53 BUCK7_VIN (in), 54 BUCK7_FB (in)
part B pins: 1 VIN_3P3_1 (in), 4 LDO5_VOUT (power), 5 VSYS_1 (in), 6 LDO3_VOUT (power), 7 VIN_3P3_2 (in), 8 LDO2_VOUT (power), 9 VSYS_2 (in), 10 LDO1_VOUT (out), 41 VSYS_3 (in), 42 LDO4_VOUT (power), 43 VIN_1P8_1 (in), 44 LDO6_VOUT (power), 45 SD_VSELECT (in), 55 MUXSW_VOUT (power), 56 VIN_1P8_2 (in)
part C pins: 2 ~{WDOG} (in), 3 ~{RTC_RESET} (out), 11 INTLDO1P5 (out), 12 AGND (power), 13 XOUT (out), 14 XIN (in), 15 PMIC_ON_REQ (in), 16 PMIC_STBY_REQ (in), 25 ~{POR} (out), 26 SCL (in), 27 SDA (io), 28 DVDD (power), 29 C32K_OUT (out), 39 ~{IRQ} (out), 40 ~{PWRON} (in), 57 PGND1 (power), 58 PGND2 (power), 59 PGND3 (power), 60 PGND4 (power), 61 PGND5 (power)

## TESTLOOP
designator TP?  (value not drawn)
CLASS: IO
pins: 1 Pin1

## TitleBlock_MCPG
designator *  Page Size: NC  Page Number: 1  PUBI: ____  FIUO: X  (hidden comment: *)  (graphical)
Page Create Date: March  8, 1995; RevCode: ?; Page Count: 1; FCP: ____; Page Modify Date: =Date
text: Microcontroller Product Group; 6501 William Cannon Drive West / Austin, TX 78735-8598; This document contains information proprietary to NXP and shall not be used for engineering design,; procurement or manufacture in whole or in part without the express written permission of NXP Semiconductors.; ICAP Classification:; CP:; IUO:; PUBI:; Designer:; Drawing Title:; Drawn by:; Page Title:; Approved:; Size; Document Number; Rev; Date:; Sheet; of

## TLV3201_0
designator U?
CLASS: IC
pins: 1 OUT (out), 2 GND (power), 3 IN+ (in), 4 IN- (in), 5 VCC (power)
text: -; +

## TLV3201_1
designator U?
CLASS: IC
pins: 1 OUT (out), 2 GND (power), 3 IN+ (in), 4 IN- (in), 5 VCC (power)
text: -; +

## TLV3201_2
designator U?
CLASS: IC
pins: 1 OUT (out), 2 GND (power), 3 IN+ (in), 4 IN- (in), 5 VCC (power)
text: V+; -; +; V-

## TLV3201_3
designator U?
CLASS: IC
pins: 1 OUT (out), 2 GND (power), 3 IN+ (in), 4 IN- (in), 5 VCC (power)
text: -; +

## TMUX1574RSVR_0
designator U?
footprint TSSOP-16
pins: 1 S1B (io), 2 D1 (io), 3 S2A (io), 4 S2B (io), 5 D2 (io), 6 GND (power), 7 D3 (io), 8 S3B (io), 9 S3A (io), 10 D4 (io), 11 S4B (io), 12 S4A (io), 13 EN (in), 14 VDD (power), 15 SEL (in), 16 S1A (io)

## TMUX1574RSVR_1
designator U?
footprint TSSOP-16
pins: 1 S1B (io), 2 D1 (io), 3 S2A (io), 4 S2B (io), 5 D2 (io), 6 GND (power), 7 D3 (io), 8 S3B (io), 9 S3A (io), 10 D4 (io), 11 S4B (io), 12 S4A (io), 13 EN (in), 14 VDD (power), 15 SEL (in), 16 S1A (io)

## TMUX1574RSVR_2
designator U?
footprint TSSOP-16
pins: 1 S1B (io), 2 D1 (io), 3 S2A (io), 4 S2B (io), 5 D2 (io), 6 GND (power), 7 D3 (io), 8 S3B (io), 9 S3A (io), 10 D4 (io), 11 S4B (io), 12 S4A (io), 13 ~{EN} (in), 14 VDD (power), 15 SEL (in), 16 S1A (io)

## TPS22990NDMLT_WSON10
designator U?
CLASS: IC
pins: 1 CT (out), 2 NC, 3 VIN_1 (in), 4 VBIAS (power), 5 ON (in), 6 GND (power), 7 PG (out), 10 VOUT (out), 11 VIN_2 (in)

## TPS22990NDMLT_WSON10_0
designator U?
CLASS: IC
pins: 1 CT (out), 2 NC, 3 VIN_1 (in), 4 VBIAS (power), 5 ON (in), 6 GND (power), 7 PG (out), 10 VOUT (out), 11 VIN_2 (in)

## TPS22990NDMLT_WSON10_0_1
designator U?
CLASS: IC
pins: 1 CT (out), 2 NC, 3 VIN_1 (in), 4 VBIAS (power), 5 ON (in), 6 GND (power), 7 PG (out), 10 VOUT (out), 11 VIN_2 (in)

## TPS22990NDMLT_WSON10_1
designator U?
CLASS: IC
pins: 1 CT (out), 2 NC, 3 VIN_1 (in), 4 VBIAS (power), 5 ON (in), 6 GND (power), 7 PG (out), 10 VOUT (out), 11 VIN_2 (in)

## TPS22990NDMLT_WSON10_1_1
designator U?
CLASS: IC
pins: 1 CT (out), 2 NC, 3 VIN_1 (in), 4 VBIAS (power), 5 ON (in), 6 GND (power), 7 PG (out), 10 VOUT (out), 11 VIN_2 (in)

## TPS22990NDMLT_WSON10_2
designator U?
CLASS: IC
pins: 1 CT (out), 2 NC, 3 VIN_1 (in), 4 VBIAS (power), 5 ON (in), 6 GND (power), 7 PG (out), 10 VOUT (out), 11 VIN_2 (in)

## TPS22990NDMLT_WSON10_2_1
designator U?
CLASS: IC
pins: 1 CT (out), 2 NC, 3 VIN_1 (in), 4 VBIAS (power), 5 ON (in), 6 GND (power), 7 PG (out), 10 VOUT (out), 11 VIN_2 (in)

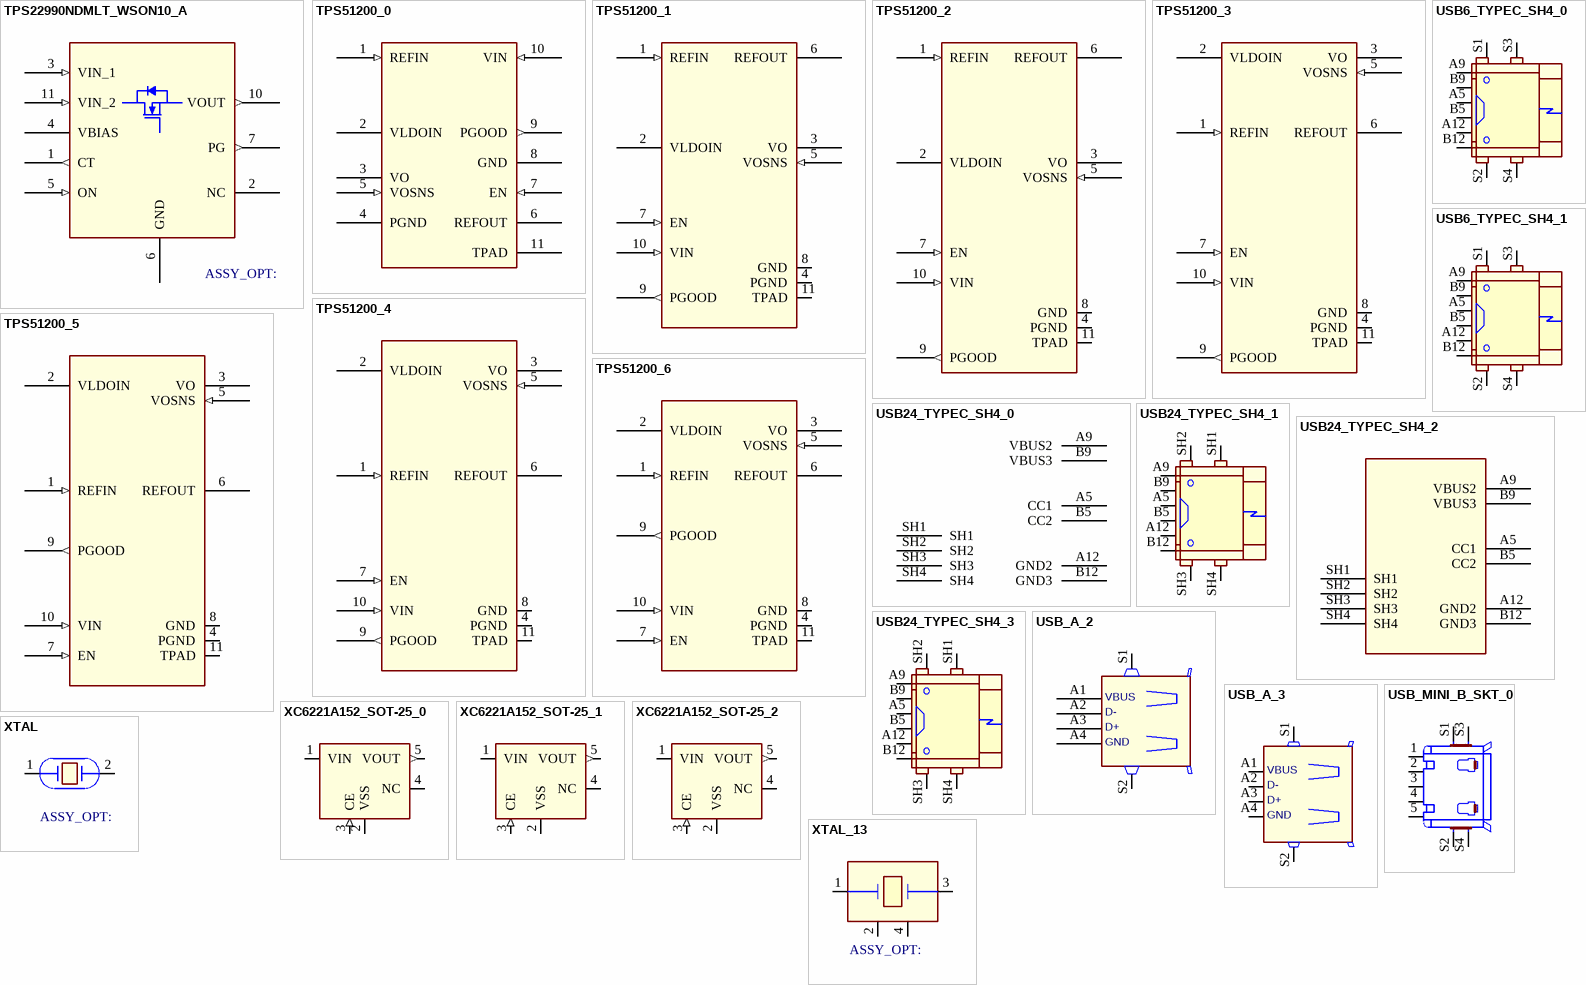
[diagram p27: symbols TPS22990NDMLT_WSON10_A to XTAL_13]

## TPS22990NDMLT_WSON10_A
designator U?
CLASS: IC
pins: 1 CT (out), 2 NC, 3 VIN_1 (in), 4 VBIAS (power), 5 ON (in), 6 GND (power), 7 PG (out), 10 VOUT (out), 11 VIN_2 (in)

## TPS51200_0
designator U?
CLASS: IC
pins: 1 REFIN (in), 2 VLDOIN (power), 3 VO (power), 4 PGND (power), 5 VOSNS (in), 6 REFOUT (power), 7 EN (in), 8 GND (power), 9 PGOOD (out), 10 VIN (in), 11 TPAD (power)

## TPS51200_1
designator U?
CLASS: IC
pins: 1 REFIN (in), 2 VLDOIN (power), 3 VO (power), 4 PGND (power), 5 VOSNS (in), 6 REFOUT (power), 7 EN (in), 8 GND (power), 9 PGOOD (out), 10 VIN (in), 11 TPAD (power)

## TPS51200_2
designator U?
CLASS: IC
pins: 1 REFIN (in), 2 VLDOIN (power), 3 VO (power), 4 PGND (power), 5 VOSNS (in), 6 REFOUT (power), 7 EN (in), 8 GND (power), 9 PGOOD (out), 10 VIN (in), 11 TPAD (power)

## TPS51200_3
designator U?
CLASS: IC
pins: 1 REFIN (in), 2 VLDOIN (power), 3 VO (power), 4 PGND (power), 5 VOSNS (in), 6 REFOUT (power), 7 EN (in), 8 GND (power), 9 PGOOD (out), 10 VIN (in), 11 TPAD (power)

## TPS51200_4
designator U?
CLASS: IC
pins: 1 REFIN (in), 2 VLDOIN (power), 3 VO (power), 4 PGND (power), 5 VOSNS (in), 6 REFOUT (power), 7 EN (in), 8 GND (power), 9 PGOOD (out), 10 VIN (in), 11 TPAD (power)

## TPS51200_5
designator U?
CLASS: IC
pins: 1 REFIN (in), 2 VLDOIN (power), 3 VO (power), 4 PGND (power), 5 VOSNS (in), 6 REFOUT (power), 7 EN (in), 8 GND (power), 9 PGOOD (out), 10 VIN (in), 11 TPAD (power)

## TPS51200_6
designator U?
CLASS: IC
pins: 1 REFIN (in), 2 VLDOIN (power), 3 VO (power), 4 PGND (power), 5 VOSNS (in), 6 REFOUT (power), 7 EN (in), 8 GND (power), 9 PGOOD (out), 10 VIN (in), 11 TPAD (power)

## USB6_TYPEC_SH4_0
designator J?
CLASS: IO
pins: A5 CC1, A9 VBUS_1, A12 GND_1 (power), B5 CC2, B9 VBUS_2, B12 GND_2 (power), S1, S2, S3, S4

## USB6_TYPEC_SH4_1
designator J?
CLASS: IO
pins: A5 CC1, A9 VBUS_1, A12 GND_1 (power), B5 CC2, B9 VBUS_2, B12 GND_2 (power), S1, S2, S3, S4

## USB24_TYPEC_SH4_0
designator J?
CLASS: IO
pins: A5 CC1, A9 VBUS2, A12 GND2 (power), B5 CC2, B9 VBUS3, B12 GND3 (power), SH1 (power), SH2 (power), SH3 (power), SH4 (power)

## USB24_TYPEC_SH4_1
designator J?
CLASS: IO
pins: A5 CC1, A9 VBUS2, A12 GND2 (power), B5 CC2, B9 VBUS3, B12 GND3 (power), SH1 (power), SH2 (power), SH3 (power), SH4 (power)

## USB24_TYPEC_SH4_2
designator J?
CLASS: IO
pins: A5 CC1, A9 VBUS2, A12 GND2 (power), B5 CC2, B9 VBUS3, B12 GND3 (power), SH1 (power), SH2 (power), SH3 (power), SH4 (power)

## USB24_TYPEC_SH4_3
designator J?
CLASS: IO
pins: A5 CC1, A9 VBUS2, A12 GND2 (power), B5 CC2, B9 VBUS3, B12 GND3 (power), SH1 (power), SH2 (power), SH3 (power), SH4 (power)

## USB_A_2
designator J?
CLASS: IO
pins: A1 VCC, A2 DATA+, A3 DATA-, A4 GND, S1 SGND1, S2 SGND2
text: VBUS; D-; D+

## USB_A_3
designator J?
CLASS: IO
pins: A1 VCC, A2 DATA+, A3 DATA-, A4 GND, S1 SGND1, S2 SGND2
text: VBUS; D-; D+

## USB_MINI_B_SKT_0
designator J?
CLASS: IO
pins: 1 VBUS, 2 D-, 3 D+, 4 ID, 5 GND1, S1 SHLD1, S2 SHLD2, S3 SHLD3, S4 SHLD4

## XC6221A152_SOT-25_0
designator U?
CLASS: IC
pins: 1 VIN (power), 2 VSS (power), 3 CE (in), 4 NC, 5 VOUT (out)

## XC6221A152_SOT-25_1
designator U?
CLASS: IC
pins: 1 VIN (power), 2 VSS (power), 3 CE (in), 4 NC, 5 VOUT (out)

## XC6221A152_SOT-25_2
designator U?
CLASS: IC
pins: 1 VIN (power), 2 VSS (power), 3 CE (in), 4 NC, 5 VOUT (out)

## XTAL
designator Y?
CLASS: IC
pins: 1, 2

## XTAL_13
designator Y?
CLASS: IC
pins: 1, 2, 3, 4